# Altium integrated library atmel.IntLib: 152 symbols (part 2 of 3)
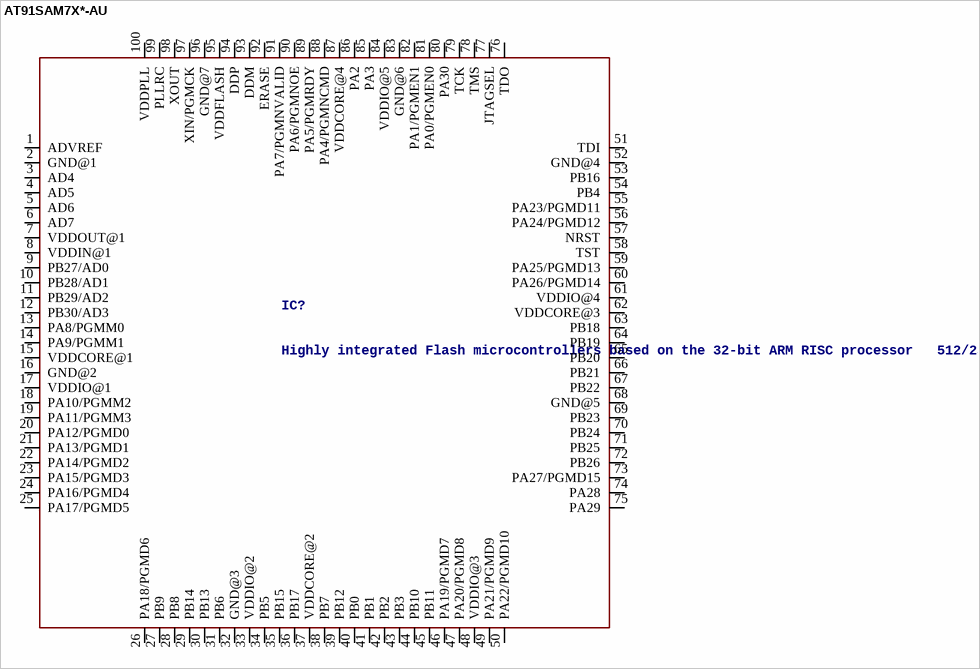
[diagram p32: symbol AT91SAM7X*-AU]

## AT91SAM7X*-AU
designator IC?, comment Highly integrated Flash microcontrollers based on the 32-bit ARM RISC processor   512/256/128 Kbyte high-speed Flash and 128/64/32 Kbyte SRAM, a large set of peripherals, including an 802.3 Ethernet MAC and a CAN controller Source: http://www.atmel.com/dyn/resources/prod_documents/6120s.pdf
MPN: AT91SAM7X128B-AU; MPN: AT91SAM7X256B-AU; MPN: AT91SAM7X512-AU; OC_FARNELL: 1288326; OC_NEWARK: 26R5682; OC_FARNELL: 1288327; OC_NEWARK: 26R5683; OC_FARNELL: 1288328; OC_NEWARK: 23M5090
footprint LQFP100
pins: 1 ADVREF, 2 GND@1, 3 AD4, 4 AD5, 5 AD6, 6 AD7, 7 VDDOUT@1, 8 VDDIN@1, 9 PB27/AD0, 10 PB28/AD1, 11 PB29/AD2, 12 PB30/AD3, 13 PA8/PGMM0, 14 PA9/PGMM1, 15 VDDCORE@1, 16 GND@2, 17 VDDIO@1, 18 PA10/PGMM2, 19 PA11/PGMM3, 20 PA12/PGMD0, 21 PA13/PGMD1, 22 PA14/PGMD2, 23 PA15/PGMD3, 24 PA16/PGMD4, 25 PA17/PGMD5, 26 PA18/PGMD6, 27 PB9, 28 PB8, 29 PB14, 30 PB13, 31 PB6, 32 GND@3, 33 VDDIO@2, 34 PB5, 35 PB15, 36 PB17, 37 VDDCORE@2, 38 PB7, 39 PB12, 40 PB0, 41 PB1, 42 PB2, 43 PB3, 44 PB10, 45 PB11, 46 PA19/PGMD7, 47 PA20/PGMD8, 48 VDDIO@3, 49 PA21/PGMD9, 50 PA22/PGMD10, 51 TDI, 52 GND@4, 53 PB16, 54 PB4, 55 PA23/PGMD11, 56 PA24/PGMD12, 57 NRST, 58 TST, 59 PA25/PGMD13, 60 PA26/PGMD14, 61 VDDIO@4, 62 VDDCORE@3, 63 PB18, 64 PB19, 65 PB20, 66 PB21, 67 PB22, 68 GND@5, 69 PB23, 70 PB24, 71 PB25, 72 PB26, 73 PA27/PGMD15, 74 PA28, 75 PA29, 76 TDO, 77 JTAGSEL, 78 TMS, 79 TCK, 80 PA30, 81 PA0/PGMEN0, 82 PA1/PGMEN1, 83 GND@6, 84 VDDIO@5, 85 PA3, 86 PA2, 87 VDDCORE@4, 88 PA4/PGMNCMD, 89 PA5/PGMRDY, 90 PA6/PGMNOE, 91 PA7/PGMNVALID, 92 ERASE, 93 DDM, 94 DDP, 95 VDDFLASH, 96 GND@7, 97 XIN/PGMCK, 98 XOUT, 99 PLLRC, 100 VDDPLL

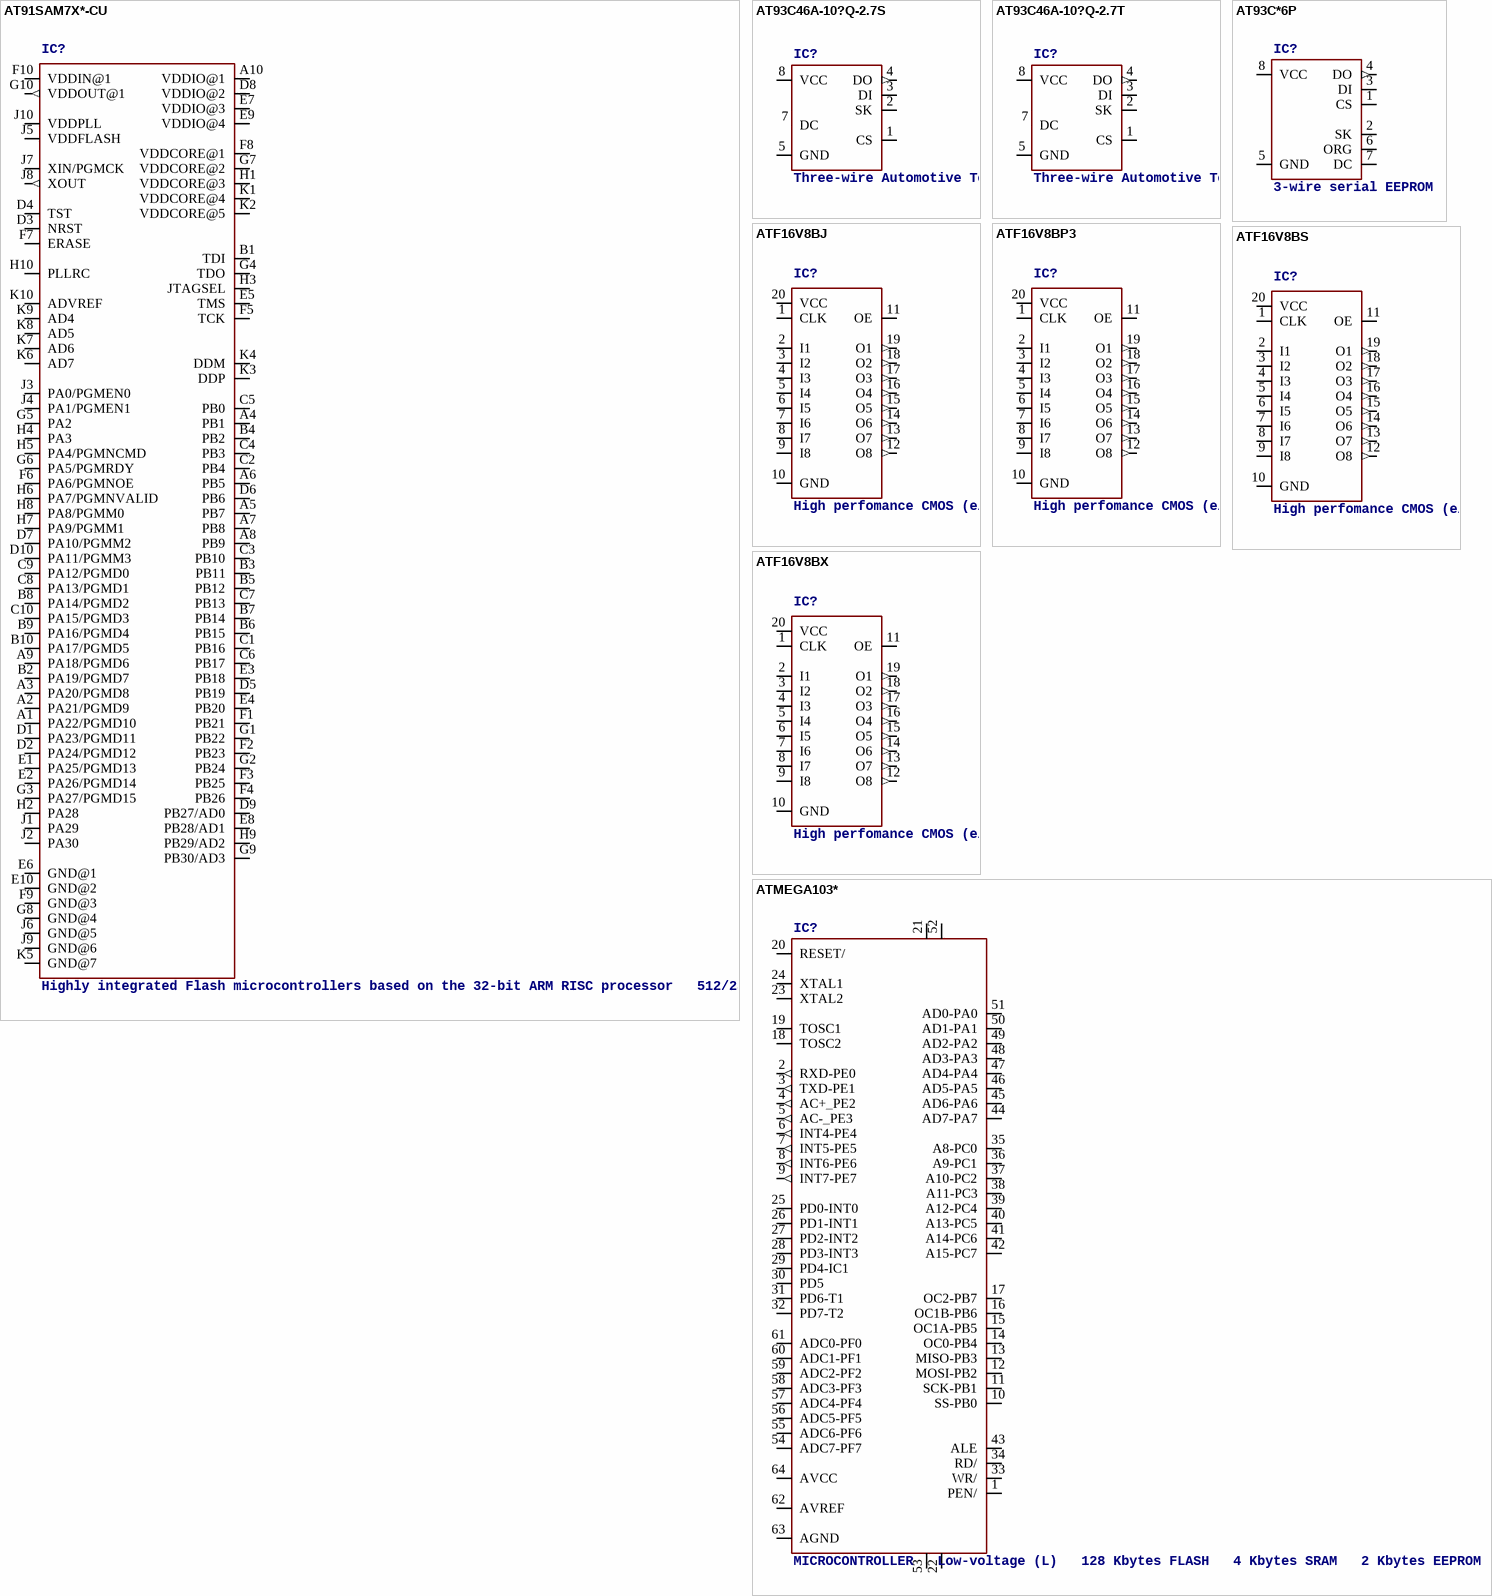
[diagram p16: symbols AT91SAM7X*-CU to ATMEGA103*]

## AT91SAM7X*-CU
designator IC?, comment Highly integrated Flash microcontrollers based on the 32-bit ARM RISC processor   512/256/128 Kbyte high-speed Flash and 128/64/32 Kbyte SRAM, a large set of peripherals, including an 802.3 Ethernet MAC and a CAN controller Source: http://www.atmel.com/dyn/resources/prod_documents/6120s.pdf
OC_FARNELL: unknown; OC_NEWARK: unknown
footprint TFBGA100
pins: A1 PA22/PGMD10, A2 PA21/PGMD9, A3 PA20/PGMD8, A4 PB1, A5 PB7, A6 PB5, A7 PB8, A8 PB9, A9 PA18/PGMD6, A10 VDDIO@1, B1 TDI, B2 PA19/PGMD7, B3 PB11, B4 PB2, B5 PB12, B6 PB15, B7 PB14, B8 PA14/PGMD2, B9 PA16/PGMD4, B10 PA17/PGMD5, C1 PB16, C2 PB4, C3 PB10, C4 PB3, C5 PB0, C6 PB17, C7 PB13, C8 PA13/PGMD1, C9 PA12/PGMD0, C10 PA15/PGMD3, D1 PA23/PGMD11, D2 PA24/PGMD12, D3 NRST, D4 TST, D5 PB19, D6 PB6, D7 PA10/PGMM2, D8 VDDIO@2, D9 PB27/AD0, D10 PA11/PGMM3, E1 PA25/PGMD13, E2 PA26/PGMD14, E3 PB18, E4 PB20, E5 TMS, E6 GND@1, E7 VDDIO@3, E8 PB28/AD1, E9 VDDIO@4, E10 GND@2, F1 PB21, F2 PB23, F3 PB25, F4 PB26, F5 TCK, F6 PA6/PGMNOE, F7 ERASE, F8 VDDCORE@1, F9 GND@3, F10 VDDIN@1, G1 PB22, G2 PB24, G3 PA27/PGMD15, G4 TDO, G5 PA2, G6 PA5/PGMRDY, G7 VDDCORE@2, G8 GND@4, G9 PB30/AD3, G10 VDDOUT@1 (out), H1 VDDCORE@3, H2 PA28, H3 JTAGSEL, H4 PA3, H5 PA4/PGMNCMD, H6 PA7/PGMNVALID, H7 PA9/PGMM1, H8 PA8/PGMM0, H9 PB29/AD2, H10 PLLRC, J1 PA29, J2 PA30, J3 PA0/PGMEN0, J4 PA1/PGMEN1, J5 VDDFLASH, J6 GND@5, J7 XIN/PGMCK, J8 XOUT (out), J9 GND@6, J10 VDDPLL, K1 VDDCORE@4, K2 VDDCORE@5, K3 DDP, K4 DDM, K5 GND@7, K6 AD7, K7 AD6, K8 AD5, K9 AD4, K10 ADVREF

## AT93C46A-10?Q-2.7S
designator IC?, comment Three-wire Automotive Temperature Serial EEPROM 1K (64 x 16)   Source: http://www.atmel.com/dyn/resources/prod_documents/doc5089.pdf
MPN: AT93C46DN-SH-B; OC_FARNELL: 1455086; OC_NEWARK: 58M3879
footprint SOIC8
pins: 1 CS, 2 SK, 3 DI, 4 DO (out), 5 GND (power), 6 NC, 7 DC, 8 VCC (power)

## AT93C46A-10?Q-2.7T
designator IC?, comment Three-wire Automotive Temperature Serial EEPROM 1K (64 x 16)   Source: http://www.atmel.com/dyn/resources/prod_documents/doc5089.pdf
OC_FARNELL: unknown; OC_NEWARK: unknown
footprint TSSOP8
pins: 1 CS, 2 SK, 3 DI, 4 DO (out), 5 GND (power), 6 NC, 7 DC, 8 VCC (power)

## AT93C*6P
designator IC?, comment 3-wire serial EEPROM
MPN: AT93C46D-PU; OC_FARNELL: 1362666; OC_NEWARK: 50M3339
footprint DIL08
pins: 1 CS, 2 SK, 3 DI, 4 DO (out), 5 GND (power), 6 ORG, 7 DC, 8 VCC (power)

## ATF16V8BJ
designator IC?, comment High perfomance CMOS (electrically erasable) programmable logic device (PLD)   ABLE-Atmel-ABEL - P18V8R, P16V8C, P16V8AS, P17V8 COPL Atmel-WinCUPL - G16V8MS, G16V8MA, G16V8AS, G16V8 LOG/IC - GAL16V8_R, GAL16V8_G7, GAL16V8_C), GAL16V8 Tango-PLD - G16V8R, G16V8C, G16V8AS, G16V8 Source: http://www.atmel.com/dyn/resources/prod_documents/DOC0364.PDF
MPN: ATF16V8CZ-15JU; OC_FARNELL: 1551767; OC_NEWARK: 94M6253
footprint PLCC20
pins: 1 CLK, 2 I1, 3 I2, 4 I3, 5 I4, 6 I5, 7 I6, 8 I7, 9 I8, 10 GND (power), 11 OE, 12 O8 (out), 13 O7 (out), 14 O6 (out), 15 O5 (out), 16 O4 (out), 17 O3 (out), 18 O2 (out), 19 O1 (out), 20 VCC (power)

## ATF16V8BP3
designator IC?, comment High perfomance CMOS (electrically erasable) programmable logic device (PLD)   ABLE-Atmel-ABEL - P18V8R, P16V8C, P16V8AS, P17V8 COPL Atmel-WinCUPL - G16V8MS, G16V8MA, G16V8AS, G16V8 LOG/IC - GAL16V8_R, GAL16V8_G7, GAL16V8_C), GAL16V8 Tango-PLD - G16V8R, G16V8C, G16V8AS, G16V8 Source: http://www.atmel.com/dyn/resources/prod_documents/DOC0364.PDF
MPN: ATF16V8CZ-15PU; OC_FARNELL: 1551768; OC_NEWARK: 94M6254
footprint DIL20
pins: 1 CLK, 2 I1, 3 I2, 4 I3, 5 I4, 6 I5, 7 I6, 8 I7, 9 I8, 10 GND (power), 11 OE, 12 O8 (out), 13 O7 (out), 14 O6 (out), 15 O5 (out), 16 O4 (out), 17 O3 (out), 18 O2 (out), 19 O1 (out), 20 VCC (power)

## ATF16V8BS
designator IC?, comment High perfomance CMOS (electrically erasable) programmable logic device (PLD)   ABLE-Atmel-ABEL - P18V8R, P16V8C, P16V8AS, P17V8 COPL Atmel-WinCUPL - G16V8MS, G16V8MA, G16V8AS, G16V8 LOG/IC - GAL16V8_R, GAL16V8_G7, GAL16V8_C), GAL16V8 Tango-PLD - G16V8R, G16V8C, G16V8AS, G16V8 Source: http://www.atmel.com/dyn/resources/prod_documents/DOC0364.PDF
OC_FARNELL: unknown; OC_NEWARK: unknown
footprint SO20L
pins: 1 CLK, 2 I1, 3 I2, 4 I3, 5 I4, 6 I5, 7 I6, 8 I7, 9 I8, 10 GND (power), 11 OE, 12 O8 (out), 13 O7 (out), 14 O6 (out), 15 O5 (out), 16 O4 (out), 17 O3 (out), 18 O2 (out), 19 O1 (out), 20 VCC (power)

## ATF16V8BX
designator IC?, comment High perfomance CMOS (electrically erasable) programmable logic device (PLD)   ABLE-Atmel-ABEL - P18V8R, P16V8C, P16V8AS, P17V8 COPL Atmel-WinCUPL - G16V8MS, G16V8MA, G16V8AS, G16V8 LOG/IC - GAL16V8_R, GAL16V8_G7, GAL16V8_C), GAL16V8 Tango-PLD - G16V8R, G16V8C, G16V8AS, G16V8 Source: http://www.atmel.com/dyn/resources/prod_documents/DOC0364.PDF
OC_FARNELL: unknown; OC_NEWARK: unknown
footprint TSSOP20
pins: 1 CLK, 2 I1, 3 I2, 4 I3, 5 I4, 6 I5, 7 I6, 8 I7, 9 I8, 10 GND (power), 11 OE, 12 O8 (out), 13 O7 (out), 14 O6 (out), 15 O5 (out), 16 O4 (out), 17 O3 (out), 18 O2 (out), 19 O1 (out), 20 VCC (power)

## ATMEGA103*
designator IC?, comment MICROCONTROLLER   Low-voltage (L)   128 Kbytes FLASH   4 Kbytes SRAM   2 Kbytes EEPROM   UART   RTC   8-channel 10 bit ADC
OC_FARNELL: unknown; OC_NEWARK: unknown
footprint TQFP64
pins: 1 PEN/, 2 RXD-PE0 (out), 3 TXD-PE1 (out), 4 AC+_PE2 (out), 5 AC-_PE3 (out), 6 INT4-PE4 (out), 7 INT5-PE5 (out), 8 INT6-PE6 (out), 9 INT7-PE7 (out), 10 SS-PB0, 11 SCK-PB1, 12 MOSI-PB2, 13 MISO-PB3, 14 OC0-PB4, 15 OC1A-PB5, 16 OC1B-PB6, 17 OC2-PB7, 18 TOSC2, 19 TOSC1, 20 RESET/, 21 01 (power), 22 02 (power), 23 XTAL2, 24 XTAL1, 25 PD0-INT0, 26 PD1-INT1, 27 PD2-INT2, 28 PD3-INT3, 29 PD4-IC1, 30 PD5, 31 PD6-T1, 32 PD7-T2, 33 WR/, 34 RD/, 35 A8-PC0, 36 A9-PC1, 37 A10-PC2, 38 A11-PC3, 39 A12-PC4, 40 A13-PC5, 41 A14-PC6, 42 A15-PC7, 43 ALE, 44 AD7-PA7, 45 AD6-PA6, 46 AD5-PA5, 47 AD4-PA4, 48 AD3-PA3, 49 AD2-PA2, 50 AD1-PA1, 51 AD0-PA0, 52 VCC (power), 53 GND (power), 54 ADC7-PF7, 55 ADC6-PF6, 56 ADC5-PF5, 57 ADC4-PF4, 58 ADC3-PF3, 59 ADC2-PF2, 60 ADC1-PF1, 61 ADC0-PF0, 62 AVREF, 63 AGND, 64 AVCC

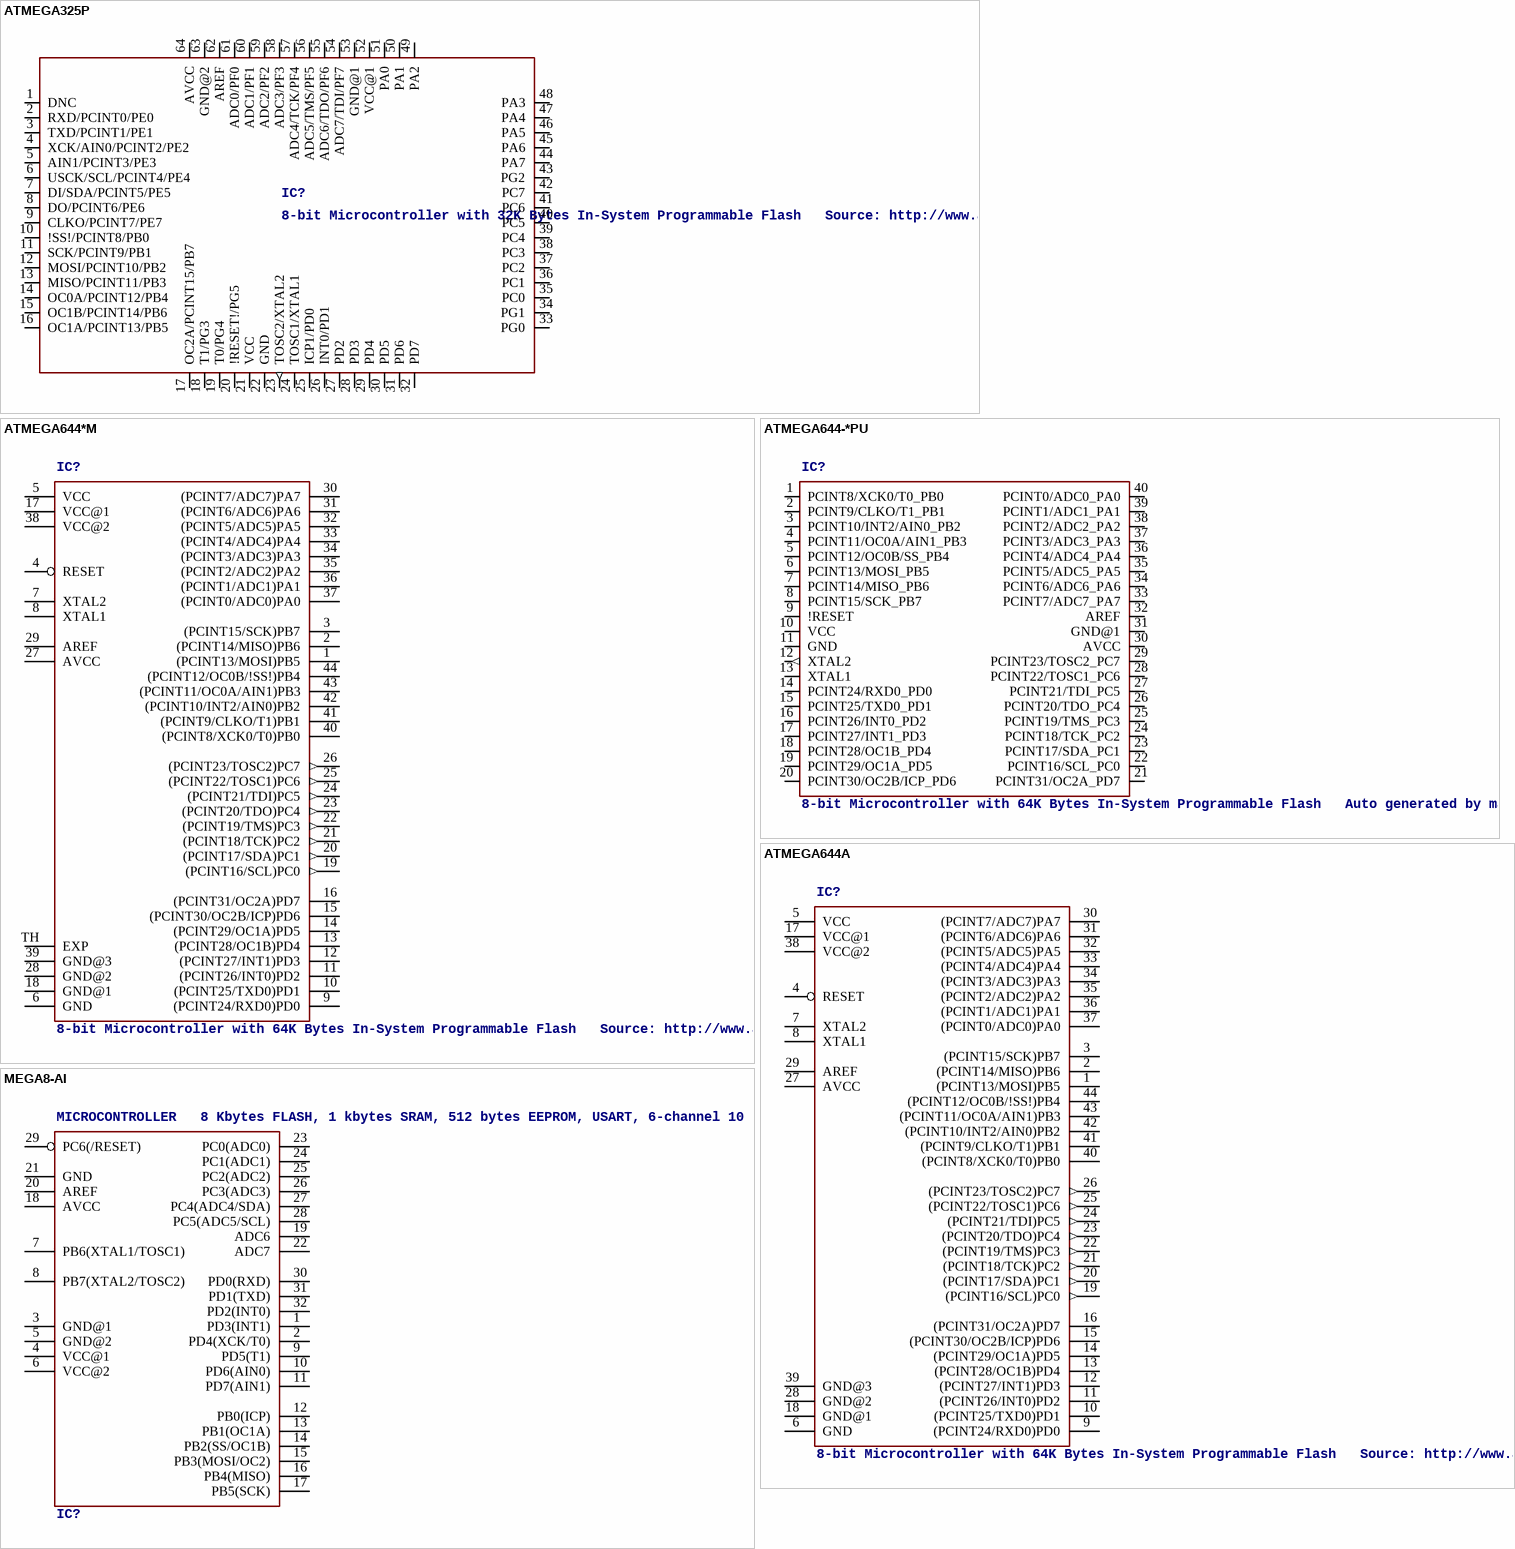
[diagram p17: symbols ATMEGA325P to MEGA8-AI]

## ATMEGA325P
designator IC?, comment 8-bit Microcontroller with 32K Bytes In-System Programmable Flash   Source: http://www.atmel.com .. doc8023.pdf
MPN: ATMEGA325PV-10AU; OC_FARNELL: 1636939; OC_NEWARK: 03P2025
footprint 64M1
pins: 1 DNC, 2 RXD/PCINT0/PE0, 3 TXD/PCINT1/PE1, 4 XCK/AIN0/PCINT2/PE2, 5 AIN1/PCINT3/PE3, 6 USCK/SCL/PCINT4/PE4, 7 DI/SDA/PCINT5/PE5, 8 DO/PCINT6/PE6, 9 CLKO/PCINT7/PE7, 10 !SS!/PCINT8/PB0, 11 SCK/PCINT9/PB1, 12 MOSI/PCINT10/PB2, 13 MISO/PCINT11/PB3, 14 OC0A/PCINT12/PB4, 15 OC1B/PCINT14/PB6, 16 OC1A/PCINT13/PB5, 17 OC2A/PCINT15/PB7, 18 T1/PG3, 19 T0/PG4, 20 !RESET!/PG5, 21 VCC (power), 22 GND (power), 23 TOSC2/XTAL2 (out), 24 TOSC1/XTAL1, 25 ICP1/PD0, 26 INT0/PD1, 27 PD2, 28 PD3, 29 PD4, 30 PD5, 31 PD6, 32 PD7, 33 PG0, 34 PG1, 35 PC0, 36 PC1, 37 PC2, 38 PC3, 39 PC4, 40 PC5, 41 PC6, 42 PC7, 43 PG2, 44 PA7, 45 PA6, 46 PA5, 47 PA4, 48 PA3, 49 PA2, 50 PA1, 51 PA0, 52 VCC@1 (power), 53 GND@1 (power), 54 ADC7/TDI/PF7, 55 ADC6/TDO/PF6, 56 ADC5/TMS/PF5, 57 ADC4/TCK/PF4, 58 ADC3/PF3, 59 ADC2/PF2, 60 ADC1/PF1, 61 ADC0/PF0, 62 AREF, 63 GND@2 (power), 64 AVCC (power)

## ATMEGA644*M
designator IC?, comment 8-bit Microcontroller with 64K Bytes In-System Programmable Flash   Source: http://www.atmel.com/dyn/resources/prod_documents/doc2593.pdf
MPN: ATMEGA644P-20MU; OC_FARNELL: 1748528; OC_NEWARK: 26R5636
footprint MLF44-TH
pins: 1 (PCINT13/MOSI)PB5, 2 (PCINT14/MISO)PB6, 3 (PCINT15/SCK)PB7, 4 RESET, 5 VCC (power), 6 GND (power), 7 XTAL2, 8 XTAL1, 9 (PCINT24/RXD0)PD0, 10 (PCINT25/TXD0)PD1, 11 (PCINT26/INT0)PD2, 12 (PCINT27/INT1)PD3, 13 (PCINT28/OC1B)PD4, 14 (PCINT29/OC1A)PD5, 15 (PCINT30/OC2B/ICP)PD6, 16 (PCINT31/OC2A)PD7, 17 VCC@1 (power), 18 GND@1 (power), 19 (PCINT16/SCL)PC0 (out), 20 (PCINT17/SDA)PC1 (out), 21 (PCINT18/TCK)PC2 (out), 22 (PCINT19/TMS)PC3 (out), 23 (PCINT20/TDO)PC4 (out), 24 (PCINT21/TDI)PC5 (out), 25 (PCINT22/TOSC1)PC6 (out), 26 (PCINT23/TOSC2)PC7 (out), 27 AVCC (power), 28 GND@2 (power), 29 AREF, 30 (PCINT7/ADC7)PA7, 31 (PCINT6/ADC6)PA6, 32 (PCINT5/ADC5)PA5, 33 (PCINT4/ADC4)PA4, 34 (PCINT3/ADC3)PA3, 35 (PCINT2/ADC2)PA2, 36 (PCINT1/ADC1)PA1, 37 (PCINT0/ADC0)PA0, 38 VCC@2 (power), 39 GND@3 (power), 40 (PCINT8/XCK0/T0)PB0, 41 (PCINT9/CLKO/T1)PB1, 42 (PCINT10/INT2/AIN0)PB2, 43 (PCINT11/OC0A/AIN1)PB3, 44 (PCINT12/OC0B/!SS!)PB4, TH EXP (power)

## ATMEGA644-*PU
designator IC?, comment 8-bit Microcontroller with 64K Bytes In-System Programmable Flash   Auto generated by make-symbol-device-package-bsdl.ulp Rev. 34 Source: http://www.atmel.com/dyn/resources/prod_documents/doc2593.pdf
MPN: ATMEGA644V-10PU; MPN: ATMEGA644-20PU; OC_FARNELL: 1288342; OC_NEWARK: 23M5062; OC_FARNELL: 1288340; OC_NEWARK: 23M5060
footprint DIL40
pins: 1 PCINT8/XCK0/T0_PB0, 2 PCINT9/CLKO/T1_PB1, 3 PCINT10/INT2/AIN0_PB2, 4 PCINT11/OC0A/AIN1_PB3, 5 PCINT12/OC0B/SS_PB4, 6 PCINT13/MOSI_PB5, 7 PCINT14/MISO_PB6, 8 PCINT15/SCK_PB7, 9 !RESET, 10 VCC (power), 11 GND (power), 12 XTAL2 (out), 13 XTAL1, 14 PCINT24/RXD0_PD0, 15 PCINT25/TXD0_PD1, 16 PCINT26/INT0_PD2, 17 PCINT27/INT1_PD3, 18 PCINT28/OC1B_PD4, 19 PCINT29/OC1A_PD5, 20 PCINT30/OC2B/ICP_PD6, 21 PCINT31/OC2A_PD7, 22 PCINT16/SCL_PC0, 23 PCINT17/SDA_PC1, 24 PCINT18/TCK_PC2, 25 PCINT19/TMS_PC3, 26 PCINT20/TDO_PC4, 27 PCINT21/TDI_PC5, 28 PCINT22/TOSC1_PC6, 29 PCINT23/TOSC2_PC7, 30 AVCC (power), 31 GND@1 (power), 32 AREF, 33 PCINT7/ADC7_PA7, 34 PCINT6/ADC6_PA6, 35 PCINT5/ADC5_PA5, 36 PCINT4/ADC4_PA4, 37 PCINT3/ADC3_PA3, 38 PCINT2/ADC2_PA2, 39 PCINT1/ADC1_PA1, 40 PCINT0/ADC0_PA0

## ATMEGA644A
designator IC?, comment 8-bit Microcontroller with 64K Bytes In-System Programmable Flash   Source: http://www.atmel.com/dyn/resources/prod_documents/doc2593.pdf
MPN: ATMEGA644PV-10AU; OC_FARNELL: 1455123; OC_NEWARK: 58M3748
footprint TQFP44
pins: 1 (PCINT13/MOSI)PB5, 2 (PCINT14/MISO)PB6, 3 (PCINT15/SCK)PB7, 4 RESET, 5 VCC (power), 6 GND (power), 7 XTAL2, 8 XTAL1, 9 (PCINT24/RXD0)PD0, 10 (PCINT25/TXD0)PD1, 11 (PCINT26/INT0)PD2, 12 (PCINT27/INT1)PD3, 13 (PCINT28/OC1B)PD4, 14 (PCINT29/OC1A)PD5, 15 (PCINT30/OC2B/ICP)PD6, 16 (PCINT31/OC2A)PD7, 17 VCC@1 (power), 18 GND@1 (power), 19 (PCINT16/SCL)PC0 (out), 20 (PCINT17/SDA)PC1 (out), 21 (PCINT18/TCK)PC2 (out), 22 (PCINT19/TMS)PC3 (out), 23 (PCINT20/TDO)PC4 (out), 24 (PCINT21/TDI)PC5 (out), 25 (PCINT22/TOSC1)PC6 (out), 26 (PCINT23/TOSC2)PC7 (out), 27 AVCC (power), 28 GND@2 (power), 29 AREF, 30 (PCINT7/ADC7)PA7, 31 (PCINT6/ADC6)PA6, 32 (PCINT5/ADC5)PA5, 33 (PCINT4/ADC4)PA4, 34 (PCINT3/ADC3)PA3, 35 (PCINT2/ADC2)PA2, 36 (PCINT1/ADC1)PA1, 37 (PCINT0/ADC0)PA0, 38 VCC@2 (power), 39 GND@3 (power), 40 (PCINT8/XCK0/T0)PB0, 41 (PCINT9/CLKO/T1)PB1, 42 (PCINT10/INT2/AIN0)PB2, 43 (PCINT11/OC0A/AIN1)PB3, 44 (PCINT12/OC0B/!SS!)PB4

## MEGA8-AI
designator IC?, comment MICROCONTROLLER   8 Kbytes FLASH, 1 kbytes SRAM, 512 bytes EEPROM, USART, 6-channel 10 bit ADC, 2-channel 8 bit ADC Pin compatible with Atmega48, ATMega88, ATMega168 Source: avr.lbr
MPN: ATMEGA8-16AU; OC_FARNELL: 9171371; OC_NEWARK: 73M8863
footprint TQFP32-08
pins: 1 PD3(INT1), 2 PD4(XCK/T0), 3 GND@1 (power), 4 VCC@1 (power), 5 GND@2 (power), 6 VCC@2 (power), 7 PB6(XTAL1/TOSC1), 8 PB7(XTAL2/TOSC2), 9 PD5(T1), 10 PD6(AIN0), 11 PD7(AIN1), 12 PB0(ICP), 13 PB1(OC1A), 14 PB2(SS/OC1B), 15 PB3(MOSI/OC2), 16 PB4(MISO), 17 PB5(SCK), 18 AVCC (power), 19 ADC6, 20 AREF, 21 GND (power), 22 ADC7, 23 PC0(ADC0), 24 PC1(ADC1), 25 PC2(ADC2), 26 PC3(ADC3), 27 PC4(ADC4/SDA), 28 PC5(ADC5/SCL), 29 PC6(/RESET), 30 PD0(RXD), 31 PD1(TXD), 32 PD2(INT0)

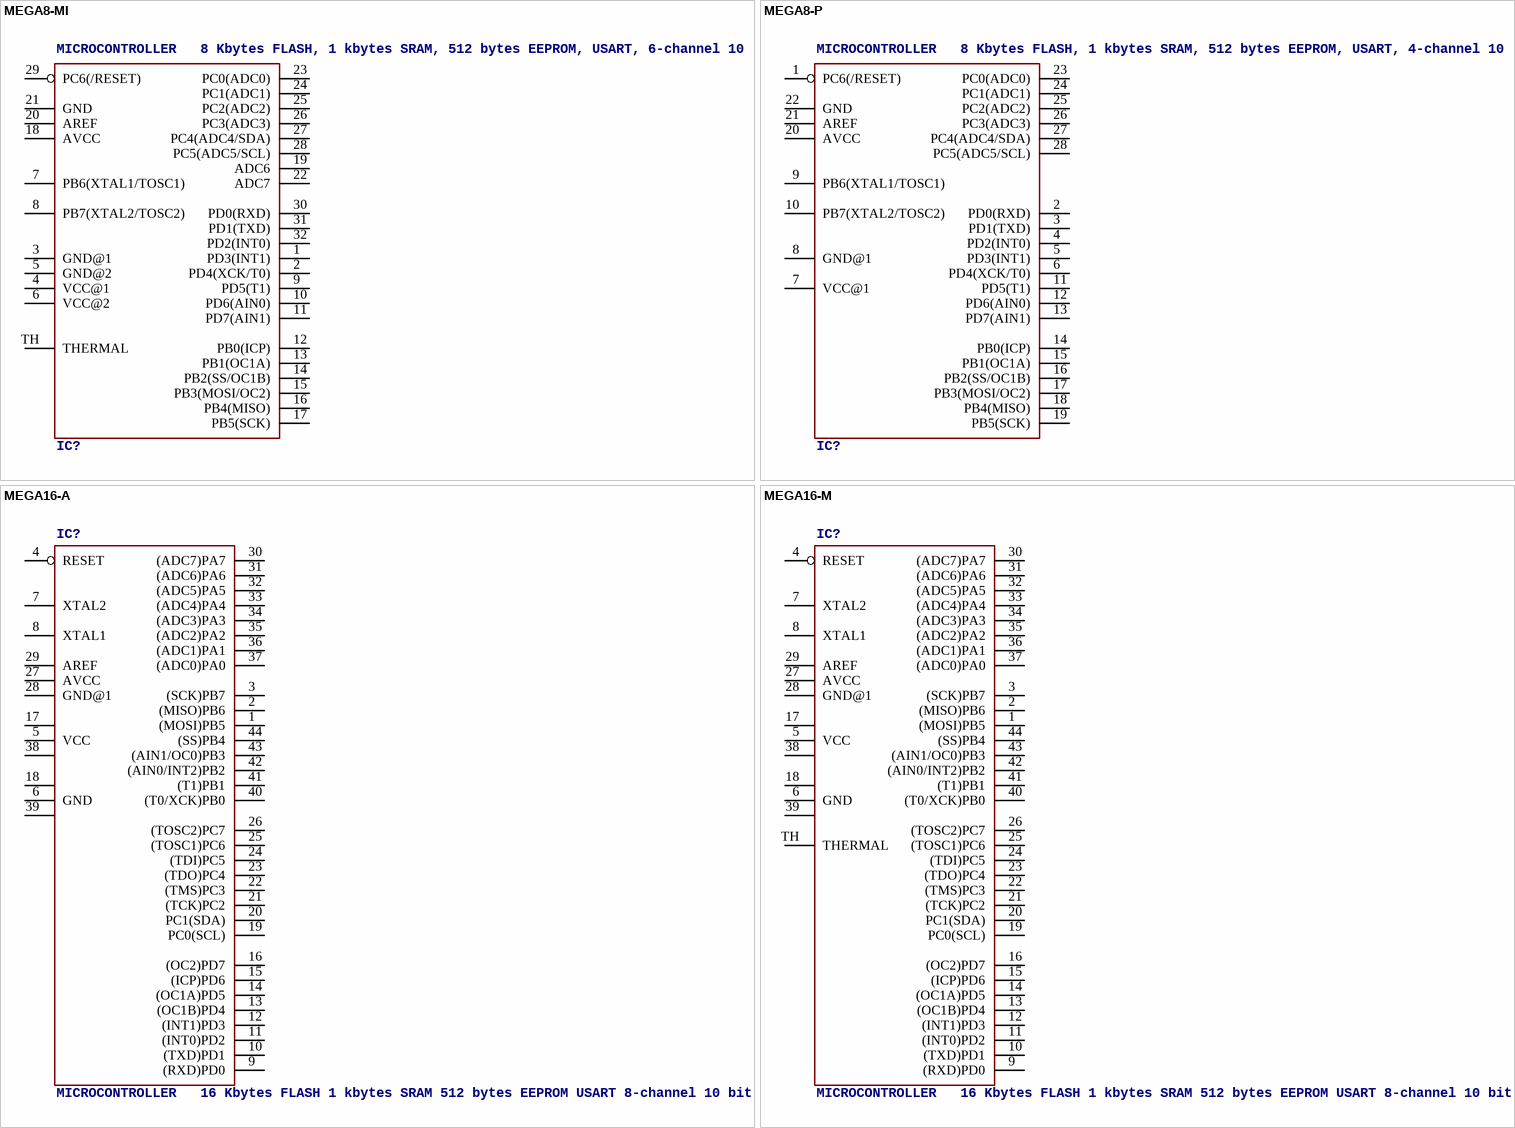
[diagram p18: symbols MEGA8-MI to MEGA16-M]

## MEGA8-MI
designator IC?, comment MICROCONTROLLER   8 Kbytes FLASH, 1 kbytes SRAM, 512 bytes EEPROM, USART, 6-channel 10 bit ADC, 2-channel 8 bit ADC Pin compatible with Atmega48, ATMega88, ATMega168 Source: avr.lbr
MPN: ATMEGA88PA-MU; OC_FARNELL: 1715491; OC_NEWARK: 15R0272
footprint MLF32-TH
pins: 1 PD3(INT1), 2 PD4(XCK/T0), 3 GND@1 (power), 4 VCC@1 (power), 5 GND@2 (power), 6 VCC@2 (power), 7 PB6(XTAL1/TOSC1), 8 PB7(XTAL2/TOSC2), 9 PD5(T1), 10 PD6(AIN0), 11 PD7(AIN1), 12 PB0(ICP), 13 PB1(OC1A), 14 PB2(SS/OC1B), 15 PB3(MOSI/OC2), 16 PB4(MISO), 17 PB5(SCK), 18 AVCC (power), 19 ADC6, 20 AREF, 21 GND (power), 22 ADC7, 23 PC0(ADC0), 24 PC1(ADC1), 25 PC2(ADC2), 26 PC3(ADC3), 27 PC4(ADC4/SDA), 28 PC5(ADC5/SCL), 29 PC6(/RESET), 30 PD0(RXD), 31 PD1(TXD), 32 PD2(INT0), TH THERMAL

## MEGA8-P
designator IC?, comment MICROCONTROLLER   8 Kbytes FLASH, 1 kbytes SRAM, 512 bytes EEPROM, USART, 4-channel 10 bit ADC, 2-channel 8 bit ADC Pin compatible with Atmega48, ATMega88, ATMega168 Source: avr.lbr
OC_FARNELL: unknown; OC_NEWARK: unknown
footprint DIL28-3
pins: 1 PC6(/RESET), 2 PD0(RXD), 3 PD1(TXD), 4 PD2(INT0), 5 PD3(INT1), 6 PD4(XCK/T0), 7 VCC@1 (power), 8 GND@1 (power), 9 PB6(XTAL1/TOSC1), 10 PB7(XTAL2/TOSC2), 11 PD5(T1), 12 PD6(AIN0), 13 PD7(AIN1), 14 PB0(ICP), 15 PB1(OC1A), 16 PB2(SS/OC1B), 17 PB3(MOSI/OC2), 18 PB4(MISO), 19 PB5(SCK), 20 AVCC (power), 21 AREF, 22 GND (power), 23 PC0(ADC0), 24 PC1(ADC1), 25 PC2(ADC2), 26 PC3(ADC3), 27 PC4(ADC4/SDA), 28 PC5(ADC5/SCL)

## MEGA16-A
designator IC?, comment MICROCONTROLLER   16 Kbytes FLASH 1 kbytes SRAM 512 bytes EEPROM USART 8-channel 10 bit ADC   Source: avr.lbr
MPN: ATMEGA16-16AU; OC_FARNELL: 9171134; OC_NEWARK: 96K6515
footprint TQFP44
pins: 1 (MOSI)PB5, 2 (MISO)PB6, 3 (SCK)PB7, 4 RESET, 5 VCC (power), 6 GND (power), 7 XTAL2, 8 XTAL1, 9 (RXD)PD0, 10 (TXD)PD1, 11 (INT0)PD2, 12 (INT1)PD3, 13 (OC1B)PD4, 14 (OC1A)PD5, 15 (ICP)PD6, 16 (OC2)PD7, 17 VCC1 (power), 18 GND1 (power), 19 PC0(SCL), 20 PC1(SDA), 21 (TCK)PC2, 22 (TMS)PC3, 23 (TDO)PC4, 24 (TDI)PC5, 25 (TOSC1)PC6, 26 (TOSC2)PC7, 27 AVCC (power), 28 GND@1 (power), 29 AREF, 30 (ADC7)PA7, 31 (ADC6)PA6, 32 (ADC5)PA5, 33 (ADC4)PA4, 34 (ADC3)PA3, 35 (ADC2)PA2, 36 (ADC1)PA1, 37 (ADC0)PA0, 38 VCC2 (power), 39 GND2 (power), 40 (T0/XCK)PB0, 41 (T1)PB1, 42 (AIN0/INT2)PB2, 43 (AIN1/OC0)PB3, 44 (SS)PB4

## MEGA16-M
designator IC?, comment MICROCONTROLLER   16 Kbytes FLASH 1 kbytes SRAM 512 bytes EEPROM USART 8-channel 10 bit ADC   Source: avr.lbr
MPN: ATMEGA16-16MU; OC_FARNELL: 1455097; OC_NEWARK: 58M3723
footprint MLF44-TH
pins: 1 (MOSI)PB5, 2 (MISO)PB6, 3 (SCK)PB7, 4 RESET, 5 VCC (power), 6 GND (power), 7 XTAL2, 8 XTAL1, 9 (RXD)PD0, 10 (TXD)PD1, 11 (INT0)PD2, 12 (INT1)PD3, 13 (OC1B)PD4, 14 (OC1A)PD5, 15 (ICP)PD6, 16 (OC2)PD7, 17 VCC1 (power), 18 GND1 (power), 19 PC0(SCL), 20 PC1(SDA), 21 (TCK)PC2, 22 (TMS)PC3, 23 (TDO)PC4, 24 (TDI)PC5, 25 (TOSC1)PC6, 26 (TOSC2)PC7, 27 AVCC (power), 28 GND@1 (power), 29 AREF, 30 (ADC7)PA7, 31 (ADC6)PA6, 32 (ADC5)PA5, 33 (ADC4)PA4, 34 (ADC3)PA3, 35 (ADC2)PA2, 36 (ADC1)PA1, 37 (ADC0)PA0, 38 VCC2 (power), 39 GND2 (power), 40 (T0/XCK)PB0, 41 (T1)PB1, 42 (AIN0/INT2)PB2, 43 (AIN1/OC0)PB3, 44 (SS)PB4, TH THERMAL

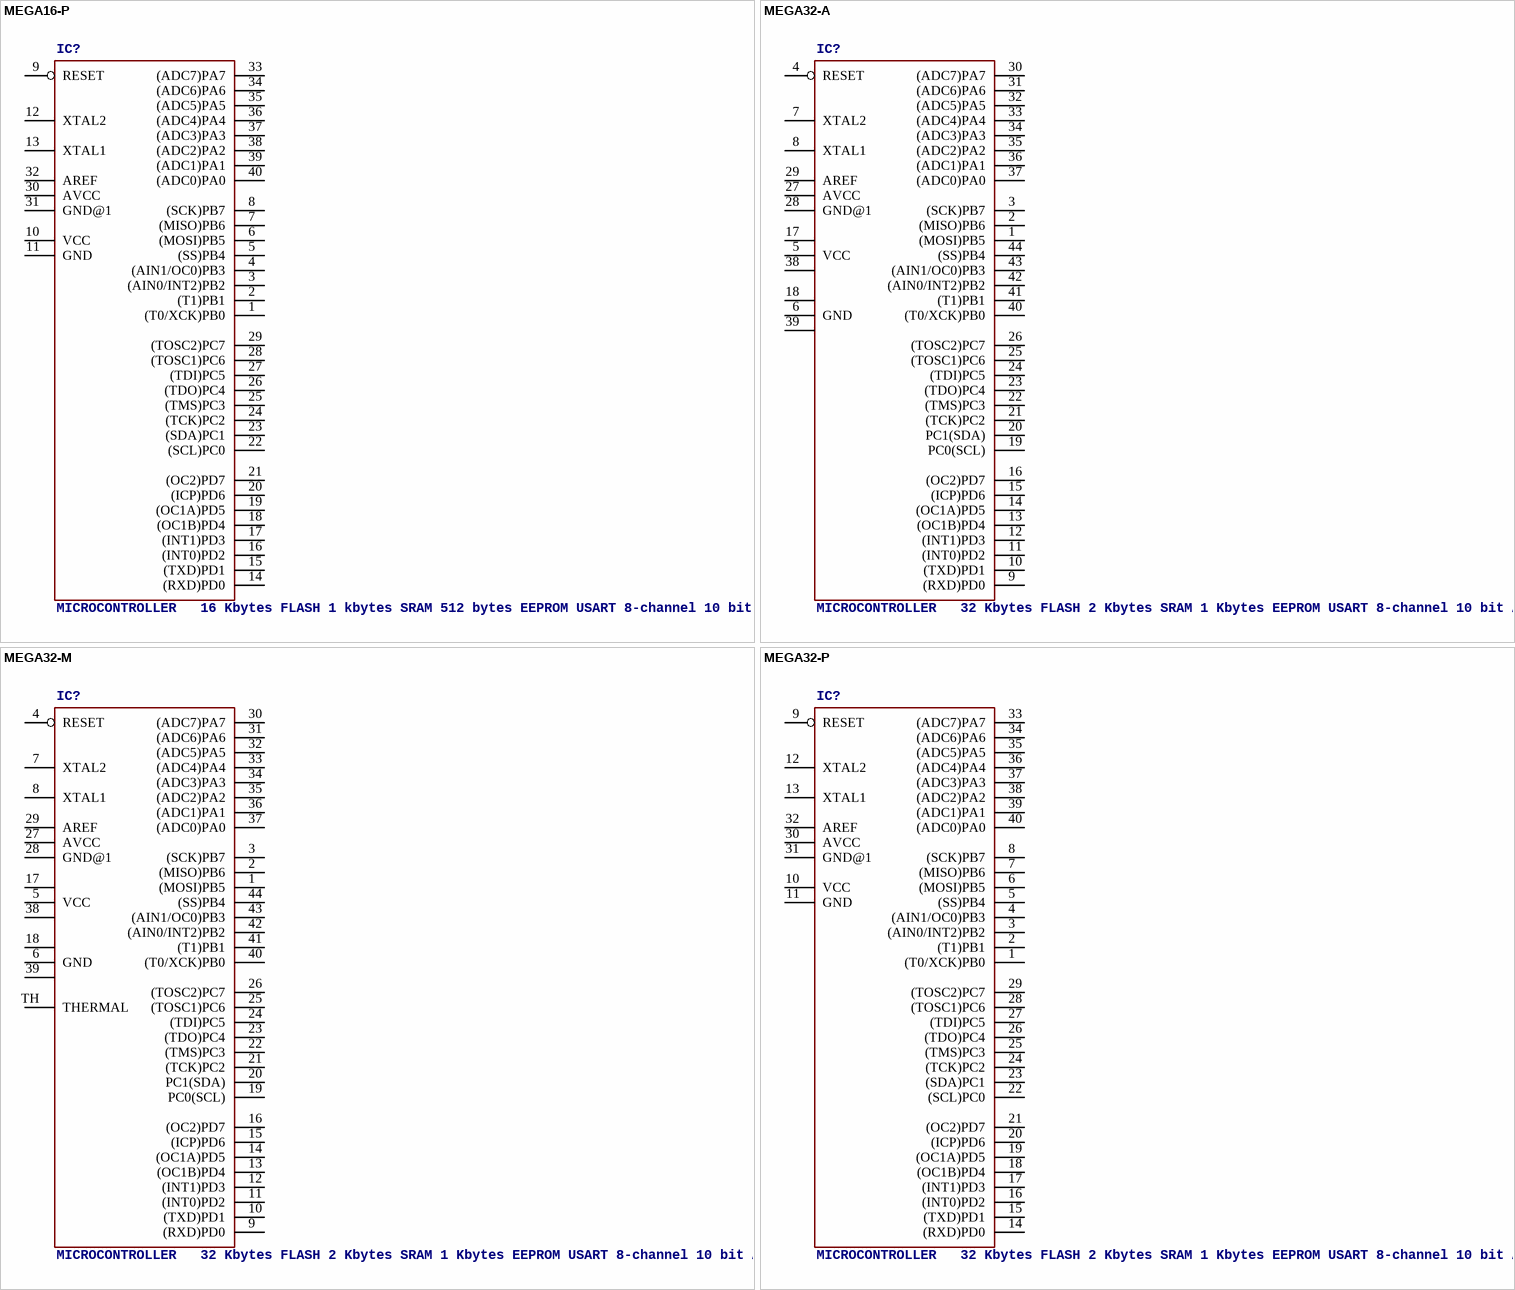
[diagram p19: symbols MEGA16-P to MEGA32-P]

## MEGA16-P
designator IC?, comment MICROCONTROLLER   16 Kbytes FLASH 1 kbytes SRAM 512 bytes EEPROM USART 8-channel 10 bit ADC   Source: avr.lbr
MPN: ATMEGA16-16PU; OC_FARNELL: 9171142; OC_NEWARK: 01M6885
footprint DIL40
pins: 1 (T0/XCK)PB0, 2 (T1)PB1, 3 (AIN0/INT2)PB2, 4 (AIN1/OC0)PB3, 5 (SS)PB4, 6 (MOSI)PB5, 7 (MISO)PB6, 8 (SCK)PB7, 9 RESET, 10 VCC (power), 11 GND (power), 12 XTAL2, 13 XTAL1, 14 (RXD)PD0, 15 (TXD)PD1, 16 (INT0)PD2, 17 (INT1)PD3, 18 (OC1B)PD4, 19 (OC1A)PD5, 20 (ICP)PD6, 21 (OC2)PD7, 22 (SCL)PC0, 23 (SDA)PC1, 24 (TCK)PC2, 25 (TMS)PC3, 26 (TDO)PC4, 27 (TDI)PC5, 28 (TOSC1)PC6, 29 (TOSC2)PC7, 30 AVCC (power), 31 GND@1 (power), 32 AREF, 33 (ADC7)PA7, 34 (ADC6)PA6, 35 (ADC5)PA5, 36 (ADC4)PA4, 37 (ADC3)PA3, 38 (ADC2)PA2, 39 (ADC1)PA1, 40 (ADC0)PA0

## MEGA32-A
designator IC?, comment MICROCONTROLLER   32 Kbytes FLASH 2 Kbytes SRAM 1 Kbytes EEPROM USART 8-channel 10 bit ADC Source: www.atmel.com .. doc2503.pdf
MPN: ATMEGA32-16AU; OC_FARNELL: 9171274; OC_NEWARK: 69K6677
footprint TQFP44
pins: 1 (MOSI)PB5, 2 (MISO)PB6, 3 (SCK)PB7, 4 RESET, 5 VCC (power), 6 GND (power), 7 XTAL2, 8 XTAL1, 9 (RXD)PD0, 10 (TXD)PD1, 11 (INT0)PD2, 12 (INT1)PD3, 13 (OC1B)PD4, 14 (OC1A)PD5, 15 (ICP)PD6, 16 (OC2)PD7, 17 VCC1 (power), 18 GND1 (power), 19 PC0(SCL), 20 PC1(SDA), 21 (TCK)PC2, 22 (TMS)PC3, 23 (TDO)PC4, 24 (TDI)PC5, 25 (TOSC1)PC6, 26 (TOSC2)PC7, 27 AVCC (power), 28 GND@1 (power), 29 AREF, 30 (ADC7)PA7, 31 (ADC6)PA6, 32 (ADC5)PA5, 33 (ADC4)PA4, 34 (ADC3)PA3, 35 (ADC2)PA2, 36 (ADC1)PA1, 37 (ADC0)PA0, 38 VCC2 (power), 39 GND2 (power), 40 (T0/XCK)PB0, 41 (T1)PB1, 42 (AIN0/INT2)PB2, 43 (AIN1/OC0)PB3, 44 (SS)PB4

## MEGA32-M
designator IC?, comment MICROCONTROLLER   32 Kbytes FLASH 2 Kbytes SRAM 1 Kbytes EEPROM USART 8-channel 10 bit ADC Source: www.atmel.com .. doc2503.pdf
MPN: ATMEGA32-16MU; OC_FARNELL: 1455108; OC_NEWARK: 58M3733
footprint MLF44-TH
pins: 1 (MOSI)PB5, 2 (MISO)PB6, 3 (SCK)PB7, 4 RESET, 5 VCC (power), 6 GND (power), 7 XTAL2, 8 XTAL1, 9 (RXD)PD0, 10 (TXD)PD1, 11 (INT0)PD2, 12 (INT1)PD3, 13 (OC1B)PD4, 14 (OC1A)PD5, 15 (ICP)PD6, 16 (OC2)PD7, 17 VCC1 (power), 18 GND1 (power), 19 PC0(SCL), 20 PC1(SDA), 21 (TCK)PC2, 22 (TMS)PC3, 23 (TDO)PC4, 24 (TDI)PC5, 25 (TOSC1)PC6, 26 (TOSC2)PC7, 27 AVCC (power), 28 GND@1 (power), 29 AREF, 30 (ADC7)PA7, 31 (ADC6)PA6, 32 (ADC5)PA5, 33 (ADC4)PA4, 34 (ADC3)PA3, 35 (ADC2)PA2, 36 (ADC1)PA1, 37 (ADC0)PA0, 38 VCC2 (power), 39 GND2 (power), 40 (T0/XCK)PB0, 41 (T1)PB1, 42 (AIN0/INT2)PB2, 43 (AIN1/OC0)PB3, 44 (SS)PB4, TH THERMAL

## MEGA32-P
designator IC?, comment MICROCONTROLLER   32 Kbytes FLASH 2 Kbytes SRAM 1 Kbytes EEPROM USART 8-channel 10 bit ADC Source: www.atmel.com .. doc2503.pdf
MPN: ATMEGA32-16PU; OC_FARNELL: 1661729; OC_NEWARK: 51P1794
footprint DIL40
pins: 1 (T0/XCK)PB0, 2 (T1)PB1, 3 (AIN0/INT2)PB2, 4 (AIN1/OC0)PB3, 5 (SS)PB4, 6 (MOSI)PB5, 7 (MISO)PB6, 8 (SCK)PB7, 9 RESET, 10 VCC (power), 11 GND (power), 12 XTAL2, 13 XTAL1, 14 (RXD)PD0, 15 (TXD)PD1, 16 (INT0)PD2, 17 (INT1)PD3, 18 (OC1B)PD4, 19 (OC1A)PD5, 20 (ICP)PD6, 21 (OC2)PD7, 22 (SCL)PC0, 23 (SDA)PC1, 24 (TCK)PC2, 25 (TMS)PC3, 26 (TDO)PC4, 27 (TDI)PC5, 28 (TOSC1)PC6, 29 (TOSC2)PC7, 30 AVCC (power), 31 GND@1 (power), 32 AREF, 33 (ADC7)PA7, 34 (ADC6)PA6, 35 (ADC5)PA5, 36 (ADC4)PA4, 37 (ADC3)PA3, 38 (ADC2)PA2, 39 (ADC1)PA1, 40 (ADC0)PA0

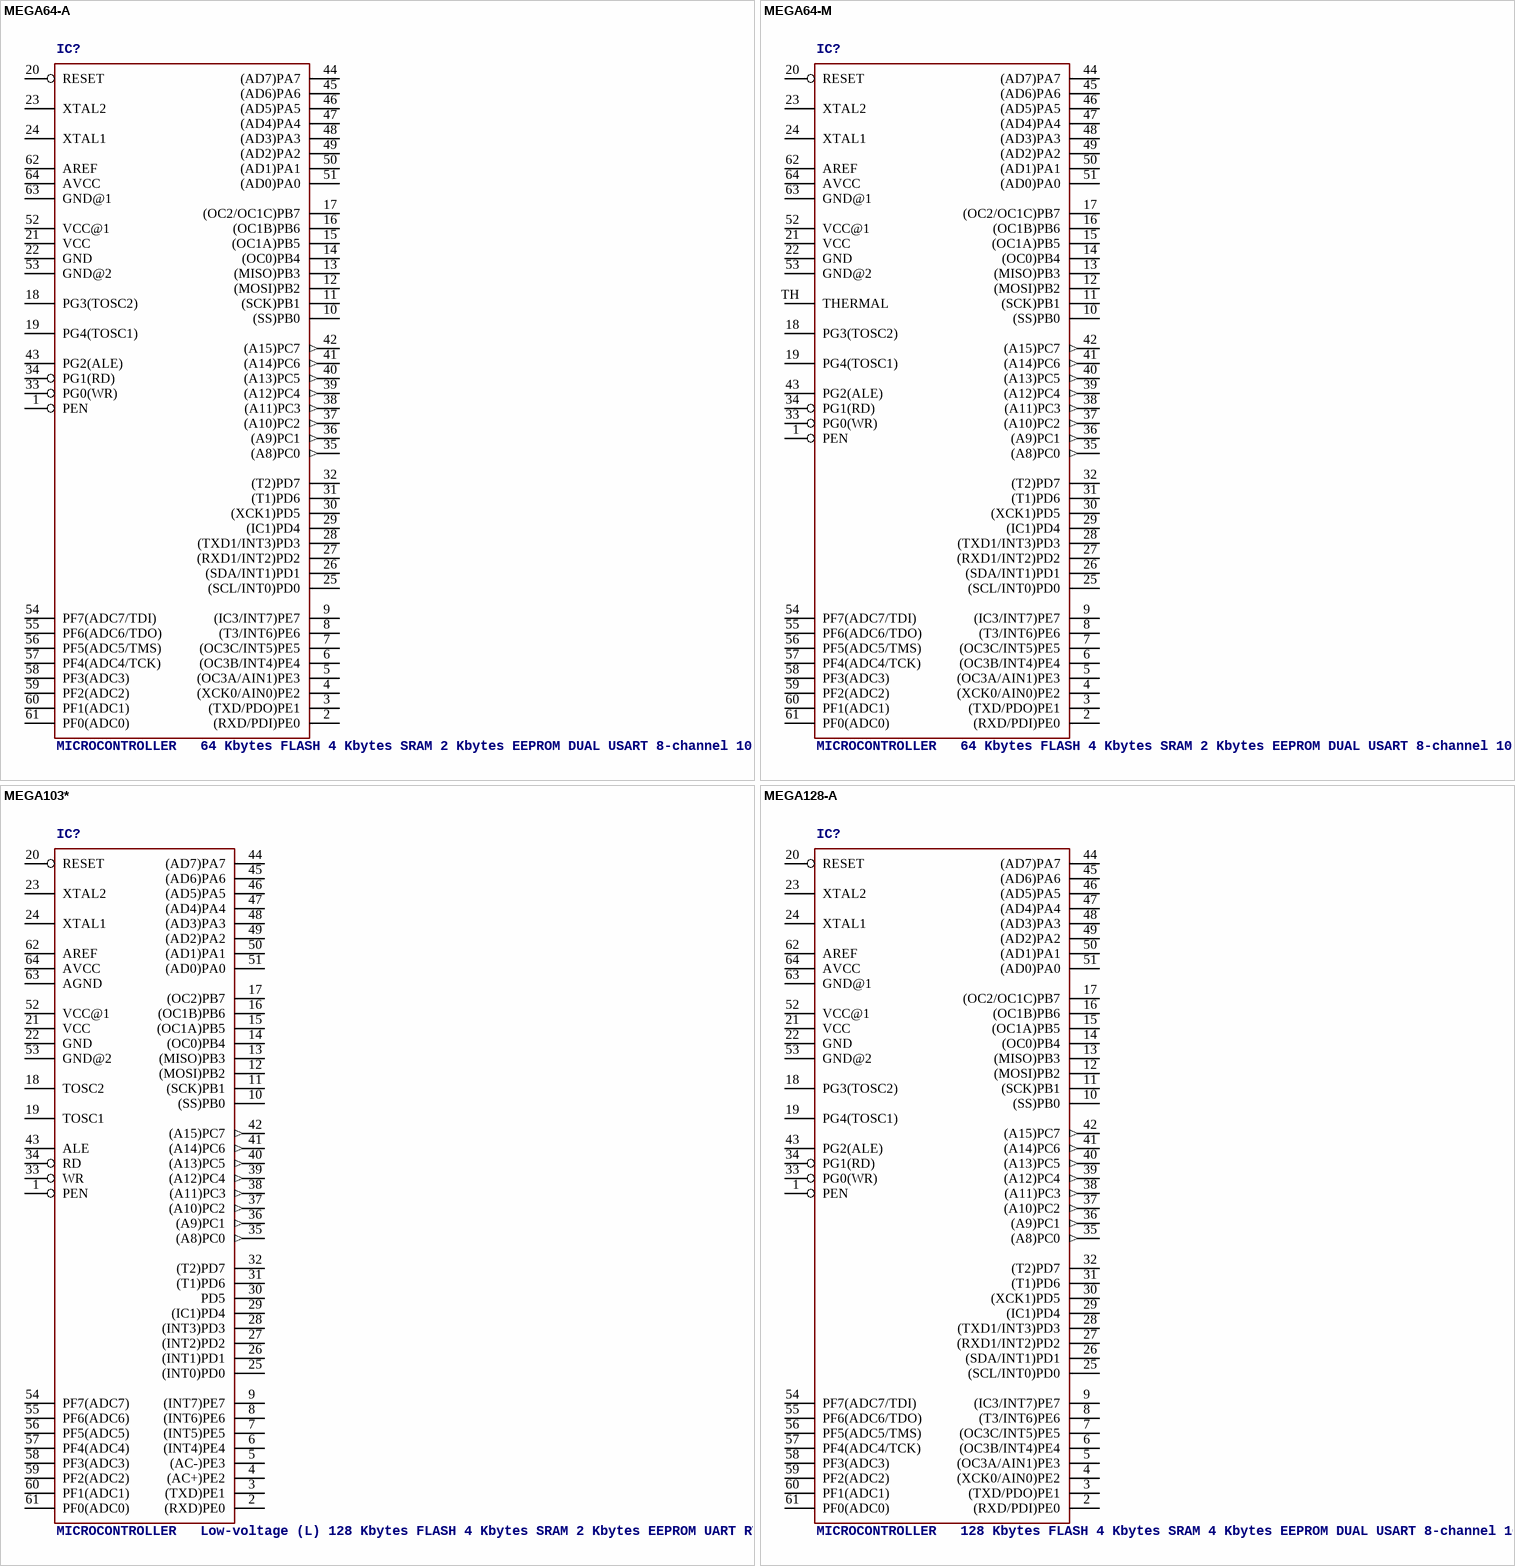
[diagram p20: symbols MEGA64-A to MEGA128-A]

## MEGA64-A
designator IC?, comment MICROCONTROLLER   64 Kbytes FLASH 4 Kbytes SRAM 2 Kbytes EEPROM DUAL USART 8-channel 10 bit ADC   Source: avr.lbr
MPN: ATMEGA64-16AU; OC_FARNELL: 9171355; OC_NEWARK: 01M6899
footprint TQFP64
pins: 1 PEN, 2 (RXD/PDI)PE0, 3 (TXD/PDO)PE1, 4 (XCK0/AIN0)PE2, 5 (OC3A/AIN1)PE3, 6 (OC3B/INT4)PE4, 7 (OC3C/INT5)PE5, 8 (T3/INT6)PE6, 9 (IC3/INT7)PE7, 10 (SS)PB0, 11 (SCK)PB1, 12 (MOSI)PB2, 13 (MISO)PB3, 14 (OC0)PB4, 15 (OC1A)PB5, 16 (OC1B)PB6, 17 (OC2/OC1C)PB7, 18 PG3(TOSC2), 19 PG4(TOSC1), 20 RESET, 21 VCC (power), 22 GND (power), 23 XTAL2, 24 XTAL1, 25 (SCL/INT0)PD0, 26 (SDA/INT1)PD1, 27 (RXD1/INT2)PD2, 28 (TXD1/INT3)PD3, 29 (IC1)PD4, 30 (XCK1)PD5, 31 (T1)PD6, 32 (T2)PD7, 33 PG0(WR), 34 PG1(RD), 35 (A8)PC0 (out), 36 (A9)PC1 (out), 37 (A10)PC2 (out), 38 (A11)PC3 (out), 39 (A12)PC4 (out), 40 (A13)PC5 (out), 41 (A14)PC6 (out), 42 (A15)PC7 (out), 43 PG2(ALE), 44 (AD7)PA7, 45 (AD6)PA6, 46 (AD5)PA5, 47 (AD4)PA4, 48 (AD3)PA3, 49 (AD2)PA2, 50 (AD1)PA1, 51 (AD0)PA0, 52 VCC@1 (power), 53 GND@2 (power), 54 PF7(ADC7/TDI), 55 PF6(ADC6/TDO), 56 PF5(ADC5/TMS), 57 PF4(ADC4/TCK), 58 PF3(ADC3), 59 PF2(ADC2), 60 PF1(ADC1), 61 PF0(ADC0), 62 AREF, 63 GND@1 (power), 64 AVCC (power)

## MEGA64-M
designator IC?, comment MICROCONTROLLER   64 Kbytes FLASH 4 Kbytes SRAM 2 Kbytes EEPROM DUAL USART 8-channel 10 bit ADC   Source: avr.lbr
MPN: ATMEGA64-16MU; OC_FARNELL: 1455120; OC_NEWARK: 58M3742
footprint MLF64-TH
pins: 1 PEN, 2 (RXD/PDI)PE0, 3 (TXD/PDO)PE1, 4 (XCK0/AIN0)PE2, 5 (OC3A/AIN1)PE3, 6 (OC3B/INT4)PE4, 7 (OC3C/INT5)PE5, 8 (T3/INT6)PE6, 9 (IC3/INT7)PE7, 10 (SS)PB0, 11 (SCK)PB1, 12 (MOSI)PB2, 13 (MISO)PB3, 14 (OC0)PB4, 15 (OC1A)PB5, 16 (OC1B)PB6, 17 (OC2/OC1C)PB7, 18 PG3(TOSC2), 19 PG4(TOSC1), 20 RESET, 21 VCC (power), 22 GND (power), 23 XTAL2, 24 XTAL1, 25 (SCL/INT0)PD0, 26 (SDA/INT1)PD1, 27 (RXD1/INT2)PD2, 28 (TXD1/INT3)PD3, 29 (IC1)PD4, 30 (XCK1)PD5, 31 (T1)PD6, 32 (T2)PD7, 33 PG0(WR), 34 PG1(RD), 35 (A8)PC0 (out), 36 (A9)PC1 (out), 37 (A10)PC2 (out), 38 (A11)PC3 (out), 39 (A12)PC4 (out), 40 (A13)PC5 (out), 41 (A14)PC6 (out), 42 (A15)PC7 (out), 43 PG2(ALE), 44 (AD7)PA7, 45 (AD6)PA6, 46 (AD5)PA5, 47 (AD4)PA4, 48 (AD3)PA3, 49 (AD2)PA2, 50 (AD1)PA1, 51 (AD0)PA0, 52 VCC@1 (power), 53 GND@2 (power), 54 PF7(ADC7/TDI), 55 PF6(ADC6/TDO), 56 PF5(ADC5/TMS), 57 PF4(ADC4/TCK), 58 PF3(ADC3), 59 PF2(ADC2), 60 PF1(ADC1), 61 PF0(ADC0), 62 AREF, 63 GND@1 (power), 64 AVCC (power), TH THERMAL

## MEGA103*
designator IC?, comment MICROCONTROLLER   Low-voltage (L) 128 Kbytes FLASH 4 Kbytes SRAM 2 Kbytes EEPROM UART RTC 8-channel 10 bit ADC   Source: avr.lbr
OC_FARNELL: unknown; OC_NEWARK: unknown
footprint TQFP64
pins: 1 PEN, 2 (RXD)PE0, 3 (TXD)PE1, 4 (AC+)PE2, 5 (AC-)PE3, 6 (INT4)PE4, 7 (INT5)PE5, 8 (INT6)PE6, 9 (INT7)PE7, 10 (SS)PB0, 11 (SCK)PB1, 12 (MOSI)PB2, 13 (MISO)PB3, 14 (OC0)PB4, 15 (OC1A)PB5, 16 (OC1B)PB6, 17 (OC2)PB7, 18 TOSC2, 19 TOSC1, 20 RESET, 21 VCC (power), 22 GND (power), 23 XTAL2, 24 XTAL1, 25 (INT0)PD0, 26 (INT1)PD1, 27 (INT2)PD2, 28 (INT3)PD3, 29 (IC1)PD4, 30 PD5, 31 (T1)PD6, 32 (T2)PD7, 33 WR, 34 RD, 35 (A8)PC0 (out), 36 (A9)PC1 (out), 37 (A10)PC2 (out), 38 (A11)PC3 (out), 39 (A12)PC4 (out), 40 (A13)PC5 (out), 41 (A14)PC6 (out), 42 (A15)PC7 (out), 43 ALE, 44 (AD7)PA7, 45 (AD6)PA6, 46 (AD5)PA5, 47 (AD4)PA4, 48 (AD3)PA3, 49 (AD2)PA2, 50 (AD1)PA1, 51 (AD0)PA0, 52 VCC@1 (power), 53 GND@2 (power), 54 PF7(ADC7), 55 PF6(ADC6), 56 PF5(ADC5), 57 PF4(ADC4), 58 PF3(ADC3), 59 PF2(ADC2), 60 PF1(ADC1), 61 PF0(ADC0), 62 AREF, 63 AGND (power), 64 AVCC (power)

## MEGA128-A
designator IC?, comment MICROCONTROLLER   128 Kbytes FLASH 4 Kbytes SRAM 4 Kbytes EEPROM DUAL USART 8-channel 10 bit ADC   Source: avr.lbr
MPN: ATMEGA128-16AU; OC_FARNELL: 9171118; OC_NEWARK: 95K7364
footprint TQFP64
pins: 1 PEN, 2 (RXD/PDI)PE0, 3 (TXD/PDO)PE1, 4 (XCK0/AIN0)PE2, 5 (OC3A/AIN1)PE3, 6 (OC3B/INT4)PE4, 7 (OC3C/INT5)PE5, 8 (T3/INT6)PE6, 9 (IC3/INT7)PE7, 10 (SS)PB0, 11 (SCK)PB1, 12 (MOSI)PB2, 13 (MISO)PB3, 14 (OC0)PB4, 15 (OC1A)PB5, 16 (OC1B)PB6, 17 (OC2/OC1C)PB7, 18 PG3(TOSC2), 19 PG4(TOSC1), 20 RESET, 21 VCC (power), 22 GND (power), 23 XTAL2, 24 XTAL1, 25 (SCL/INT0)PD0, 26 (SDA/INT1)PD1, 27 (RXD1/INT2)PD2, 28 (TXD1/INT3)PD3, 29 (IC1)PD4, 30 (XCK1)PD5, 31 (T1)PD6, 32 (T2)PD7, 33 PG0(WR), 34 PG1(RD), 35 (A8)PC0 (out), 36 (A9)PC1 (out), 37 (A10)PC2 (out), 38 (A11)PC3 (out), 39 (A12)PC4 (out), 40 (A13)PC5 (out), 41 (A14)PC6 (out), 42 (A15)PC7 (out), 43 PG2(ALE), 44 (AD7)PA7, 45 (AD6)PA6, 46 (AD5)PA5, 47 (AD4)PA4, 48 (AD3)PA3, 49 (AD2)PA2, 50 (AD1)PA1, 51 (AD0)PA0, 52 VCC@1 (power), 53 GND@2 (power), 54 PF7(ADC7/TDI), 55 PF6(ADC6/TDO), 56 PF5(ADC5/TMS), 57 PF4(ADC4/TCK), 58 PF3(ADC3), 59 PF2(ADC2), 60 PF1(ADC1), 61 PF0(ADC0), 62 AREF, 63 GND@1 (power), 64 AVCC (power)

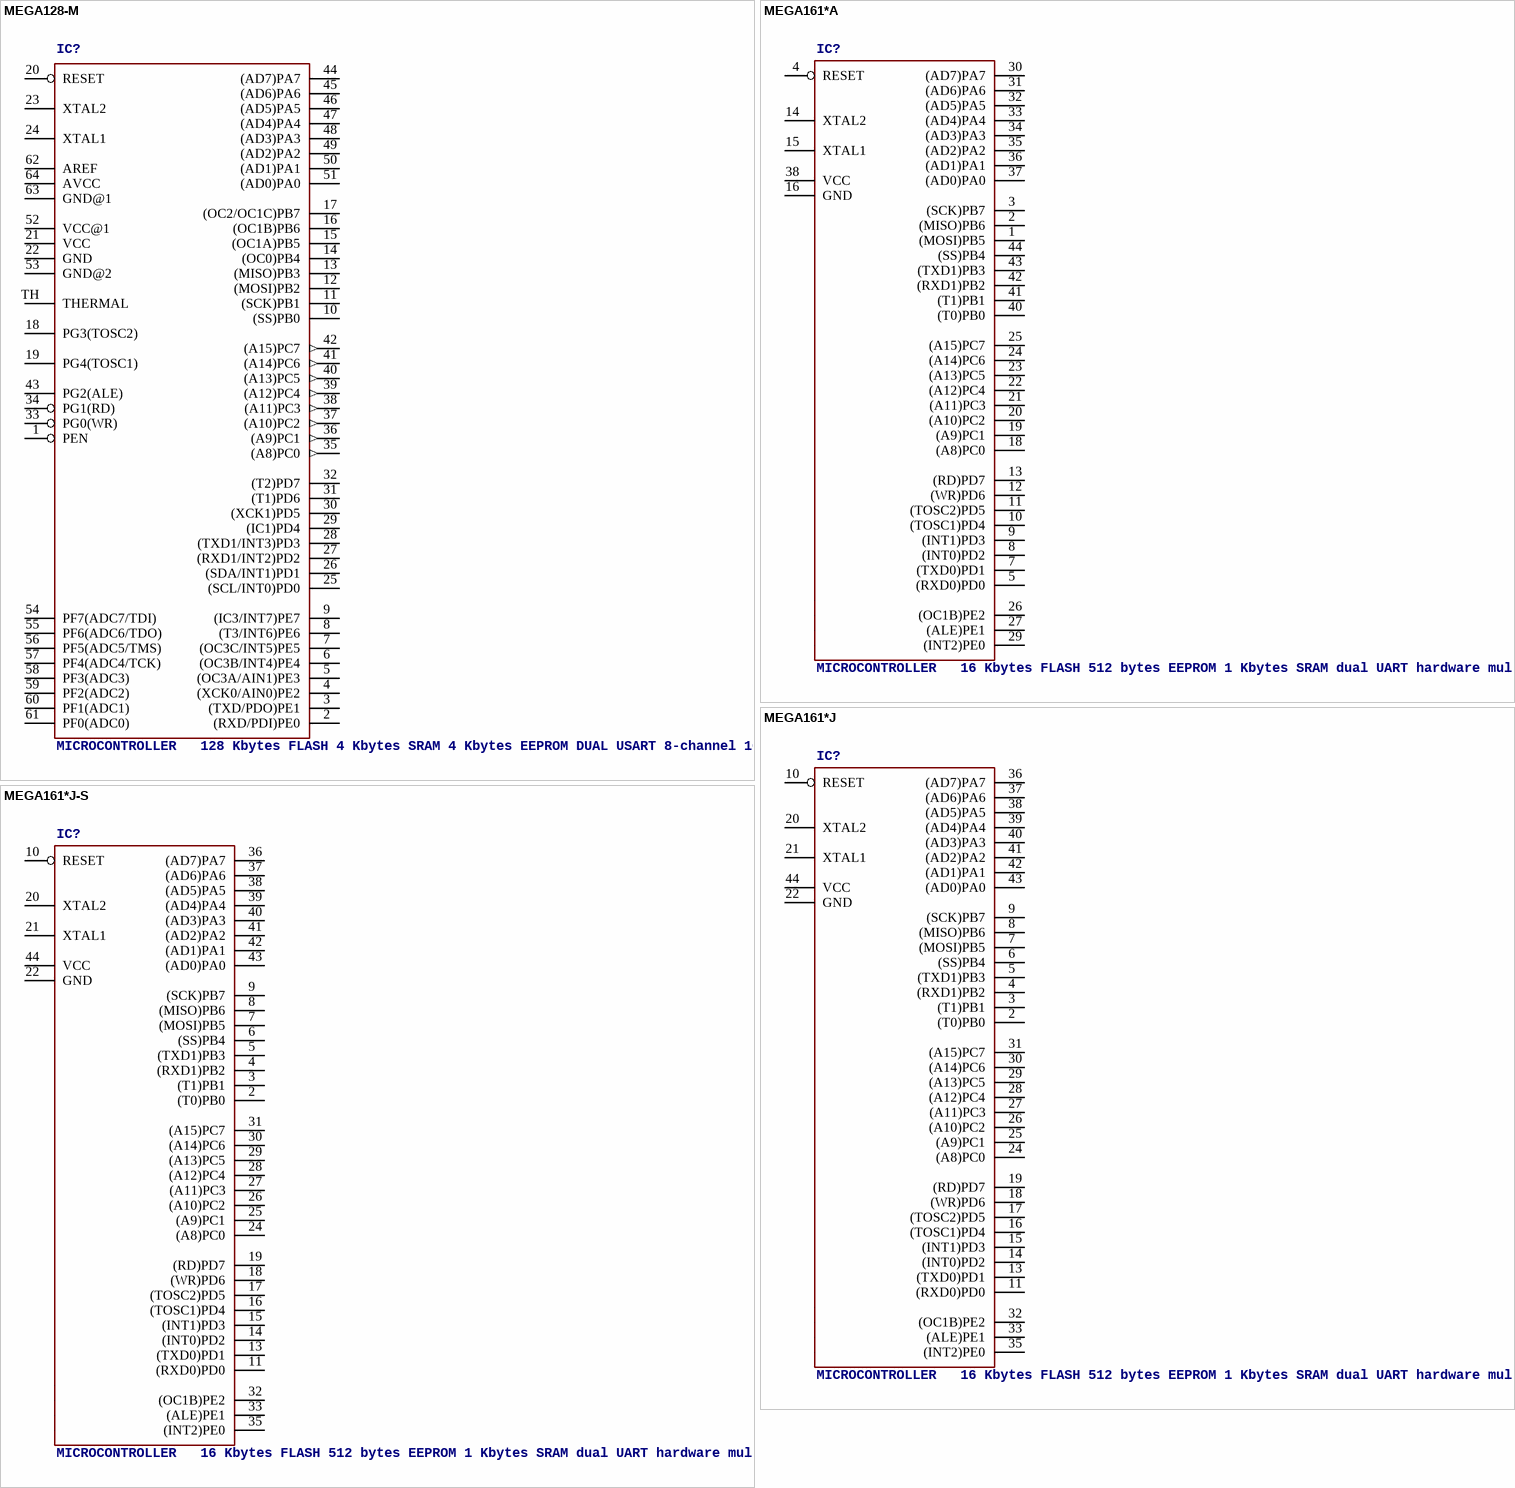
[diagram p21: symbols MEGA128-M to MEGA161*J-S]

## MEGA128-M
designator IC?, comment MICROCONTROLLER   128 Kbytes FLASH 4 Kbytes SRAM 4 Kbytes EEPROM DUAL USART 8-channel 10 bit ADC   Source: avr.lbr
MPN: ATMEGA128-16MU; OC_FARNELL: 1455093; OC_NEWARK: 58M3717
footprint MLF64-TH
pins: 1 PEN, 2 (RXD/PDI)PE0, 3 (TXD/PDO)PE1, 4 (XCK0/AIN0)PE2, 5 (OC3A/AIN1)PE3, 6 (OC3B/INT4)PE4, 7 (OC3C/INT5)PE5, 8 (T3/INT6)PE6, 9 (IC3/INT7)PE7, 10 (SS)PB0, 11 (SCK)PB1, 12 (MOSI)PB2, 13 (MISO)PB3, 14 (OC0)PB4, 15 (OC1A)PB5, 16 (OC1B)PB6, 17 (OC2/OC1C)PB7, 18 PG3(TOSC2), 19 PG4(TOSC1), 20 RESET, 21 VCC (power), 22 GND (power), 23 XTAL2, 24 XTAL1, 25 (SCL/INT0)PD0, 26 (SDA/INT1)PD1, 27 (RXD1/INT2)PD2, 28 (TXD1/INT3)PD3, 29 (IC1)PD4, 30 (XCK1)PD5, 31 (T1)PD6, 32 (T2)PD7, 33 PG0(WR), 34 PG1(RD), 35 (A8)PC0 (out), 36 (A9)PC1 (out), 37 (A10)PC2 (out), 38 (A11)PC3 (out), 39 (A12)PC4 (out), 40 (A13)PC5 (out), 41 (A14)PC6 (out), 42 (A15)PC7 (out), 43 PG2(ALE), 44 (AD7)PA7, 45 (AD6)PA6, 46 (AD5)PA5, 47 (AD4)PA4, 48 (AD3)PA3, 49 (AD2)PA2, 50 (AD1)PA1, 51 (AD0)PA0, 52 VCC@1 (power), 53 GND@2 (power), 54 PF7(ADC7/TDI), 55 PF6(ADC6/TDO), 56 PF5(ADC5/TMS), 57 PF4(ADC4/TCK), 58 PF3(ADC3), 59 PF2(ADC2), 60 PF1(ADC1), 61 PF0(ADC0), 62 AREF, 63 GND@1 (power), 64 AVCC (power), TH THERMAL

## MEGA161*A
designator IC?, comment MICROCONTROLLER   16 Kbytes FLASH 512 bytes EEPROM 1 Kbytes SRAM dual UART hardware multiplier   Source: avr.lbr
MPN: ATMEGA16-16AU; OC_FARNELL: 9171134; OC_NEWARK: 96K6515
footprint TQFP44
pins: 1 (MOSI)PB5, 2 (MISO)PB6, 3 (SCK)PB7, 4 RESET, 5 (RXD0)PD0, 6 NC1, 7 (TXD0)PD1, 8 (INT0)PD2, 9 (INT1)PD3, 10 (TOSC1)PD4, 11 (TOSC2)PD5, 12 (WR)PD6, 13 (RD)PD7, 14 XTAL2, 15 XTAL1, 16 GND (power), 17 NC2, 18 (A8)PC0, 19 (A9)PC1, 20 (A10)PC2, 21 (A11)PC3, 22 (A12)PC4, 23 (A13)PC5, 24 (A14)PC6, 25 (A15)PC7, 26 (OC1B)PE2, 27 (ALE)PE1, 28 NC3, 29 (INT2)PE0, 30 (AD7)PA7, 31 (AD6)PA6, 32 (AD5)PA5, 33 (AD4)PA4, 34 (AD3)PA3, 35 (AD2)PA2, 36 (AD1)PA1, 37 (AD0)PA0, 38 VCC (power), 39 NC4, 40 (T0)PB0, 41 (T1)PB1, 42 (RXD1)PB2, 43 (TXD1)PB3, 44 (SS)PB4

## MEGA161*J
designator IC?, comment MICROCONTROLLER   16 Kbytes FLASH 512 bytes EEPROM 1 Kbytes SRAM dual UART hardware multiplier   Source: avr.lbr
OC_FARNELL: unknown; OC_NEWARK: unknown
footprint PLCC44
pins: 1 NC1, 2 (T0)PB0, 3 (T1)PB1, 4 (RXD1)PB2, 5 (TXD1)PB3, 6 (SS)PB4, 7 (MOSI)PB5, 8 (MISO)PB6, 9 (SCK)PB7, 10 RESET, 11 (RXD0)PD0, 12 NC2, 13 (TXD0)PD1, 14 (INT0)PD2, 15 (INT1)PD3, 16 (TOSC1)PD4, 17 (TOSC2)PD5, 18 (WR)PD6, 19 (RD)PD7, 20 XTAL2, 21 XTAL1, 22 GND (power), 23 NC3, 24 (A8)PC0, 25 (A9)PC1, 26 (A10)PC2, 27 (A11)PC3, 28 (A12)PC4, 29 (A13)PC5, 30 (A14)PC6, 31 (A15)PC7, 32 (OC1B)PE2, 33 (ALE)PE1, 34 NC4, 35 (INT2)PE0, 36 (AD7)PA7, 37 (AD6)PA6, 38 (AD5)PA5, 39 (AD4)PA4, 40 (AD3)PA3, 41 (AD2)PA2, 42 (AD1)PA1, 43 (AD0)PA0, 44 VCC (power)

## MEGA161*J-S
designator IC?, comment MICROCONTROLLER   16 Kbytes FLASH 512 bytes EEPROM 1 Kbytes SRAM dual UART hardware multiplier   Source: avr.lbr
OC_FARNELL: unknown; OC_NEWARK: unknown
footprint S44
pins: 1 NC1, 2 (T0)PB0, 3 (T1)PB1, 4 (RXD1)PB2, 5 (TXD1)PB3, 6 (SS)PB4, 7 (MOSI)PB5, 8 (MISO)PB6, 9 (SCK)PB7, 10 RESET, 11 (RXD0)PD0, 12 NC2, 13 (TXD0)PD1, 14 (INT0)PD2, 15 (INT1)PD3, 16 (TOSC1)PD4, 17 (TOSC2)PD5, 18 (WR)PD6, 19 (RD)PD7, 20 XTAL2, 21 XTAL1, 22 GND (power), 23 NC3, 24 (A8)PC0, 25 (A9)PC1, 26 (A10)PC2, 27 (A11)PC3, 28 (A12)PC4, 29 (A13)PC5, 30 (A14)PC6, 31 (A15)PC7, 32 (OC1B)PE2, 33 (ALE)PE1, 34 NC4, 35 (INT2)PE0, 36 (AD7)PA7, 37 (AD6)PA6, 38 (AD5)PA5, 39 (AD4)PA4, 40 (AD3)PA3, 41 (AD2)PA2, 42 (AD1)PA1, 43 (AD0)PA0, 44 VCC (power)

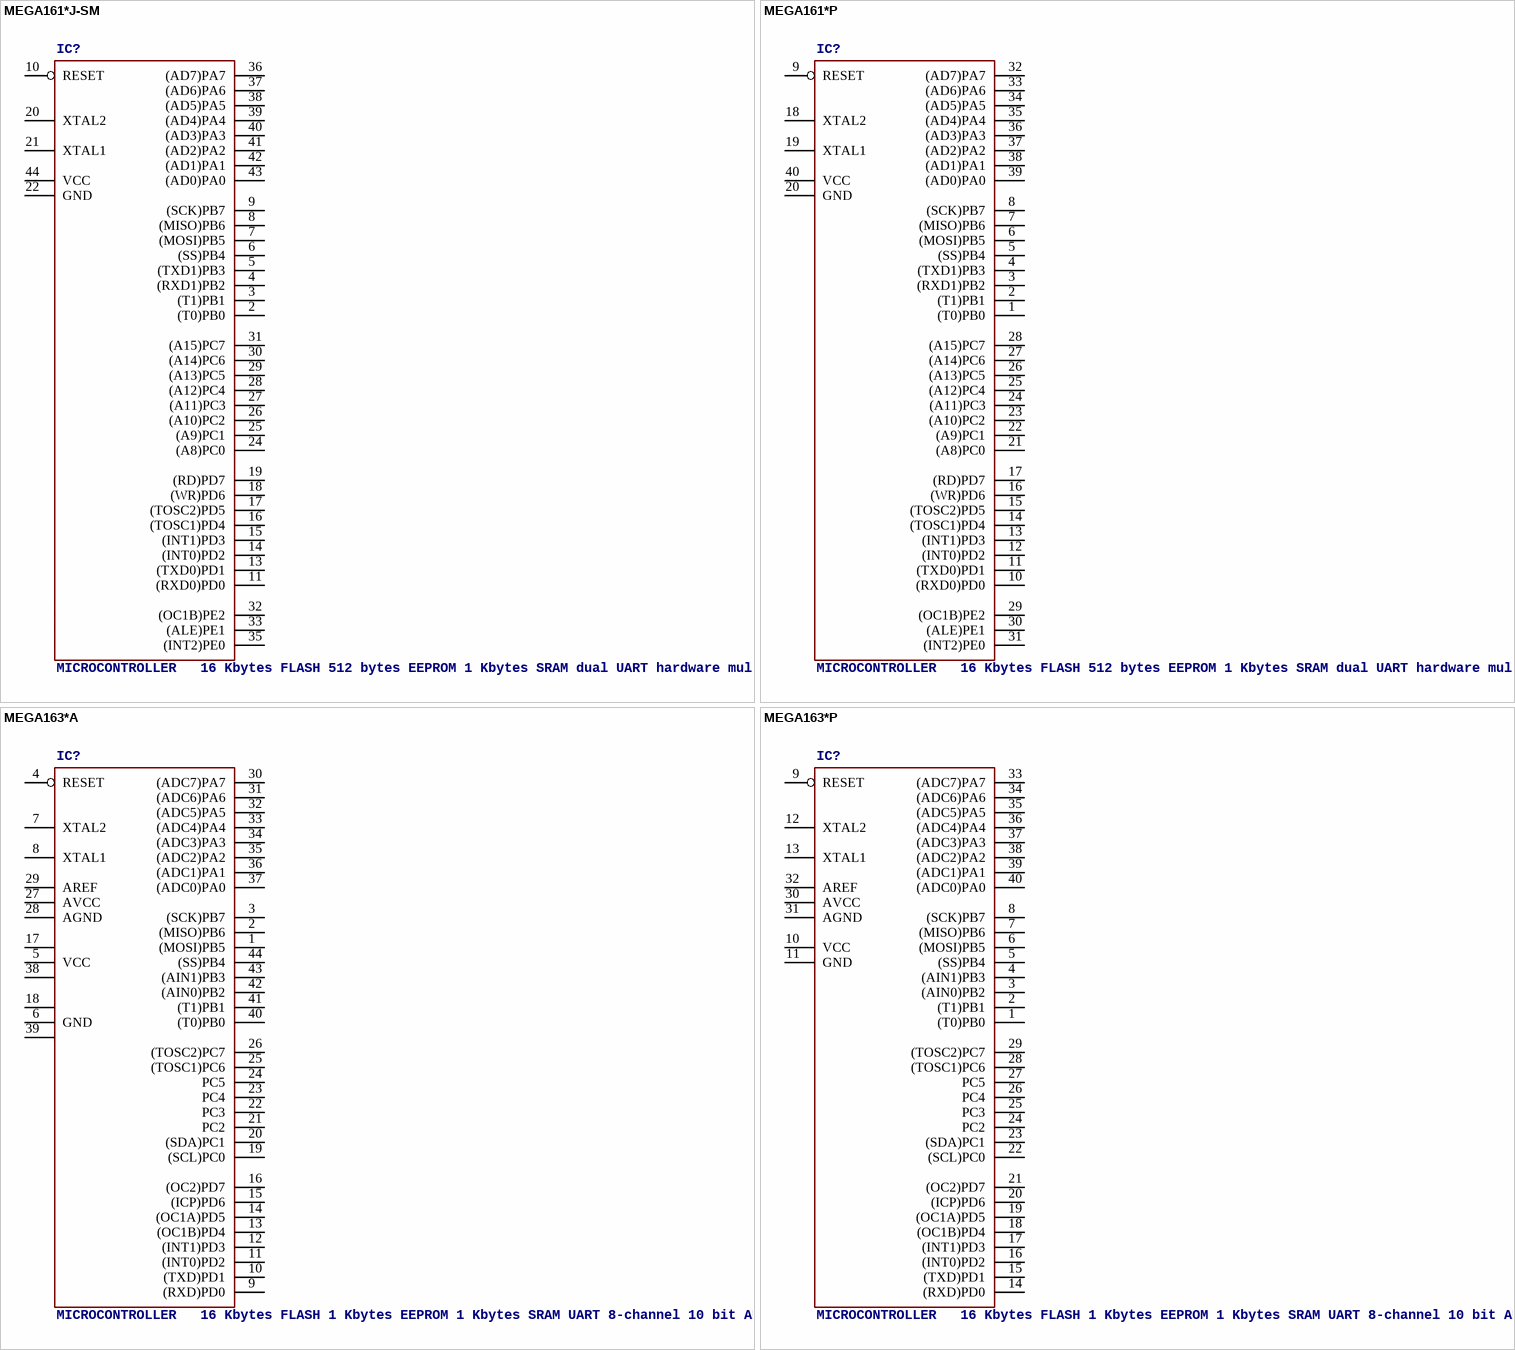
[diagram p22: symbols MEGA161*J-SM to MEGA163*P]

## MEGA161*J-SM
designator IC?, comment MICROCONTROLLER   16 Kbytes FLASH 512 bytes EEPROM 1 Kbytes SRAM dual UART hardware multiplier   Source: avr.lbr
OC_FARNELL: unknown; OC_NEWARK: unknown
footprint PLCC-SM44
pins: 1 NC1, 2 (T0)PB0, 3 (T1)PB1, 4 (RXD1)PB2, 5 (TXD1)PB3, 6 (SS)PB4, 7 (MOSI)PB5, 8 (MISO)PB6, 9 (SCK)PB7, 10 RESET, 11 (RXD0)PD0, 12 NC2, 13 (TXD0)PD1, 14 (INT0)PD2, 15 (INT1)PD3, 16 (TOSC1)PD4, 17 (TOSC2)PD5, 18 (WR)PD6, 19 (RD)PD7, 20 XTAL2, 21 XTAL1, 22 GND (power), 23 NC3, 24 (A8)PC0, 25 (A9)PC1, 26 (A10)PC2, 27 (A11)PC3, 28 (A12)PC4, 29 (A13)PC5, 30 (A14)PC6, 31 (A15)PC7, 32 (OC1B)PE2, 33 (ALE)PE1, 34 NC4, 35 (INT2)PE0, 36 (AD7)PA7, 37 (AD6)PA6, 38 (AD5)PA5, 39 (AD4)PA4, 40 (AD3)PA3, 41 (AD2)PA2, 42 (AD1)PA1, 43 (AD0)PA0, 44 VCC (power)

## MEGA161*P
designator IC?, comment MICROCONTROLLER   16 Kbytes FLASH 512 bytes EEPROM 1 Kbytes SRAM dual UART hardware multiplier   Source: avr.lbr
MPN: ATMEGA16-16PU; OC_FARNELL: 9171142; OC_NEWARK: 98M0167
footprint DIL40
pins: 1 (T0)PB0, 2 (T1)PB1, 3 (RXD1)PB2, 4 (TXD1)PB3, 5 (SS)PB4, 6 (MOSI)PB5, 7 (MISO)PB6, 8 (SCK)PB7, 9 RESET, 10 (RXD0)PD0, 11 (TXD0)PD1, 12 (INT0)PD2, 13 (INT1)PD3, 14 (TOSC1)PD4, 15 (TOSC2)PD5, 16 (WR)PD6, 17 (RD)PD7, 18 XTAL2, 19 XTAL1, 20 GND (power), 21 (A8)PC0, 22 (A9)PC1, 23 (A10)PC2, 24 (A11)PC3, 25 (A12)PC4, 26 (A13)PC5, 27 (A14)PC6, 28 (A15)PC7, 29 (OC1B)PE2, 30 (ALE)PE1, 31 (INT2)PE0, 32 (AD7)PA7, 33 (AD6)PA6, 34 (AD5)PA5, 35 (AD4)PA4, 36 (AD3)PA3, 37 (AD2)PA2, 38 (AD1)PA1, 39 (AD0)PA0, 40 VCC (power)

## MEGA163*A
designator IC?, comment MICROCONTROLLER   16 Kbytes FLASH 1 Kbytes EEPROM 1 Kbytes SRAM UART 8-channel 10 bit ADC hardware multiplier   Source: avr.lbr
OC_FARNELL: unknown; OC_NEWARK: unknown
footprint TQFP44
pins: 1 (MOSI)PB5, 2 (MISO)PB6, 3 (SCK)PB7, 4 RESET, 5 VCC (power), 6 GND (power), 7 XTAL2, 8 XTAL1, 9 (RXD)PD0, 10 (TXD)PD1, 11 (INT0)PD2, 12 (INT1)PD3, 13 (OC1B)PD4, 14 (OC1A)PD5, 15 (ICP)PD6, 16 (OC2)PD7, 17 VCC1 (power), 18 GND1 (power), 19 (SCL)PC0, 20 (SDA)PC1, 21 PC2, 22 PC3, 23 PC4, 24 PC5, 25 (TOSC1)PC6, 26 (TOSC2)PC7, 27 AVCC (power), 28 AGND (power), 29 AREF, 30 (ADC7)PA7, 31 (ADC6)PA6, 32 (ADC5)PA5, 33 (ADC4)PA4, 34 (ADC3)PA3, 35 (ADC2)PA2, 36 (ADC1)PA1, 37 (ADC0)PA0, 38 VCC2 (power), 39 GND2 (power), 40 (T0)PB0, 41 (T1)PB1, 42 (AIN0)PB2, 43 (AIN1)PB3, 44 (SS)PB4

## MEGA163*P
designator IC?, comment MICROCONTROLLER   16 Kbytes FLASH 1 Kbytes EEPROM 1 Kbytes SRAM UART 8-channel 10 bit ADC hardware multiplier   Source: avr.lbr
OC_FARNELL: unknown; OC_NEWARK: unknown
footprint DIL40
pins: 1 (T0)PB0, 2 (T1)PB1, 3 (AIN0)PB2, 4 (AIN1)PB3, 5 (SS)PB4, 6 (MOSI)PB5, 7 (MISO)PB6, 8 (SCK)PB7, 9 RESET, 10 VCC (power), 11 GND (power), 12 XTAL2, 13 XTAL1, 14 (RXD)PD0, 15 (TXD)PD1, 16 (INT0)PD2, 17 (INT1)PD3, 18 (OC1B)PD4, 19 (OC1A)PD5, 20 (ICP)PD6, 21 (OC2)PD7, 22 (SCL)PC0, 23 (SDA)PC1, 24 PC2, 25 PC3, 26 PC4, 27 PC5, 28 (TOSC1)PC6, 29 (TOSC2)PC7, 30 AVCC (power), 31 AGND (power), 32 AREF, 33 (ADC7)PA7, 34 (ADC6)PA6, 35 (ADC5)PA5, 36 (ADC4)PA4, 37 (ADC3)PA3, 38 (ADC2)PA2, 39 (ADC1)PA1, 40 (ADC0)PA0

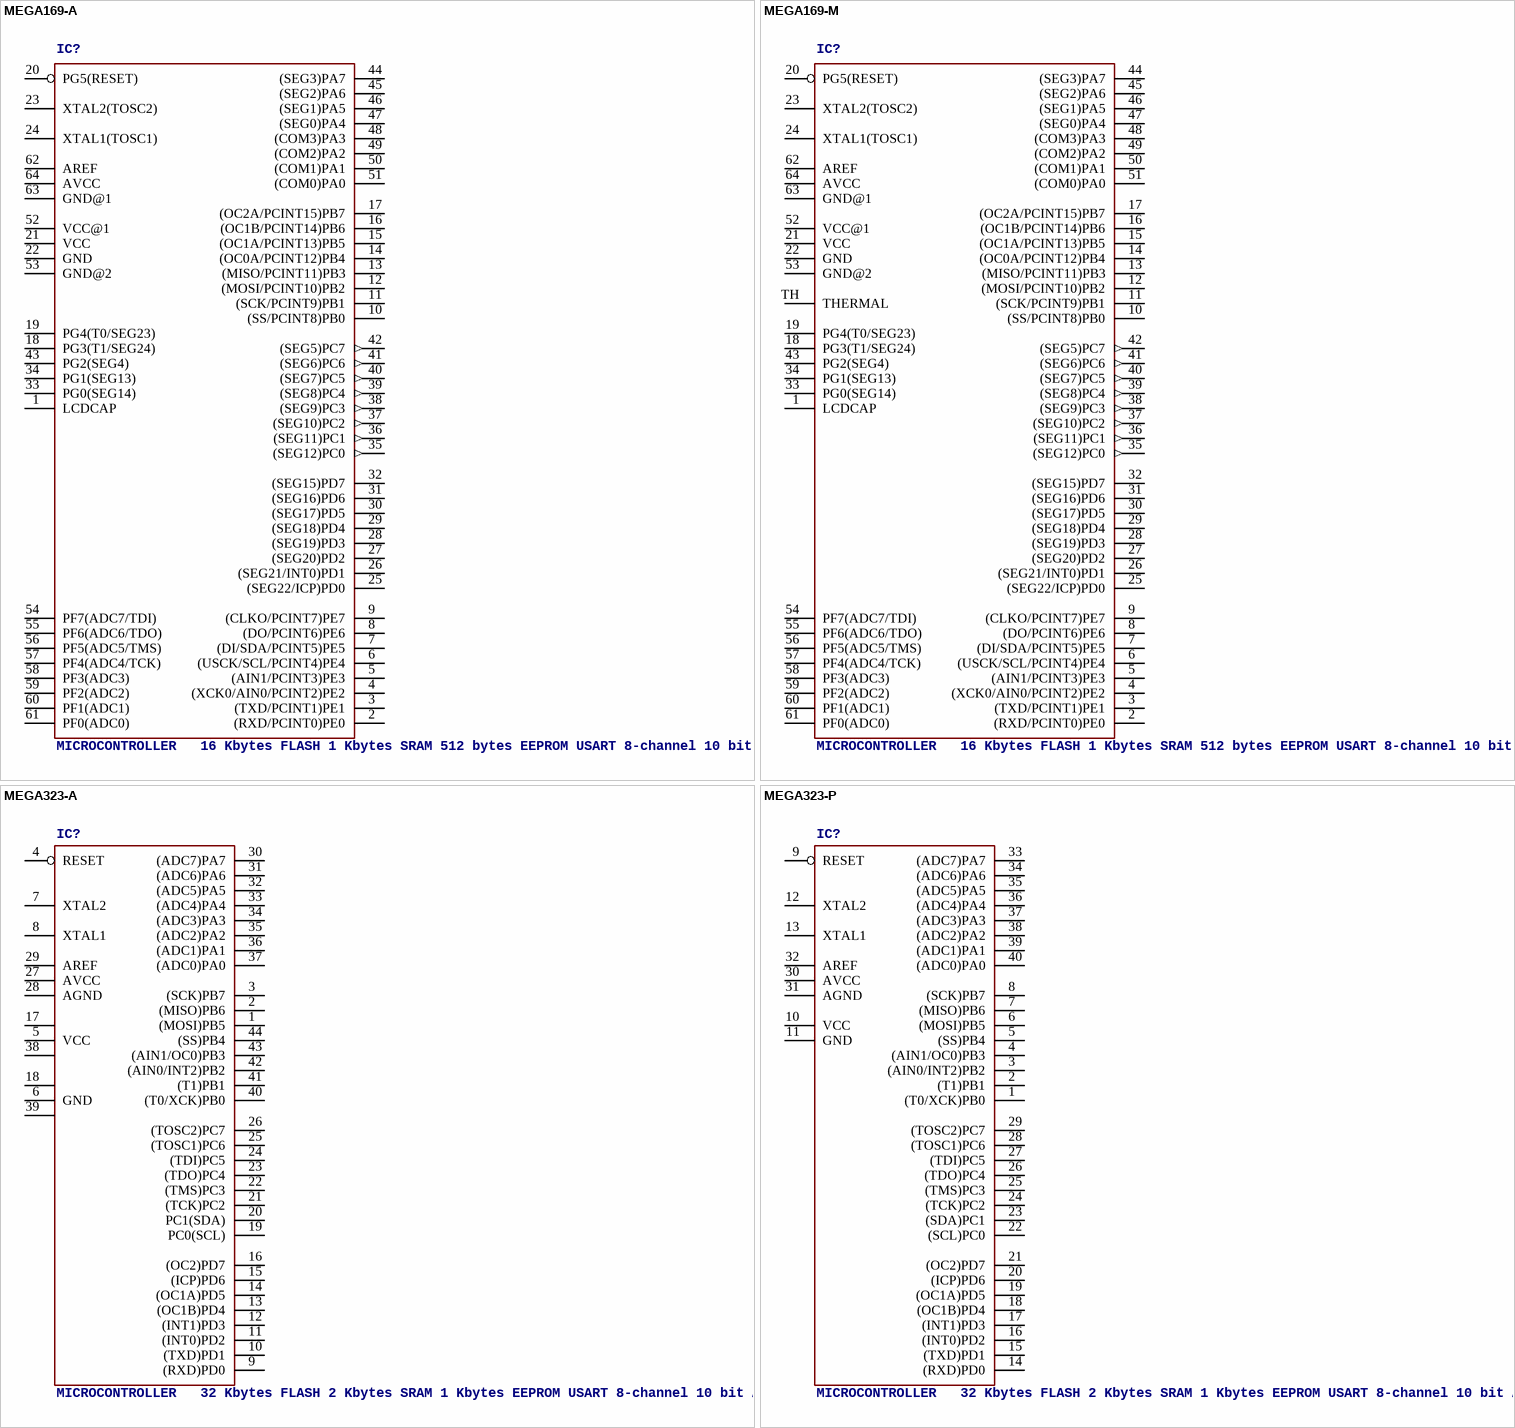
[diagram p23: symbols MEGA169-A to MEGA323-P]

## MEGA169-A
designator IC?, comment MICROCONTROLLER   16 Kbytes FLASH 1 Kbytes SRAM 512 bytes EEPROM USART 8-channel 10 bit ADC 4x25 Segment LCD Driver   Source: avr.lbr
MPN: ATMEGA169PV-8AU; OC_FARNELL: 1617046; OC_NEWARK: 03P4011
footprint TQFP64
pins: 1 LCDCAP, 2 (RXD/PCINT0)PE0, 3 (TXD/PCINT1)PE1, 4 (XCK0/AIN0/PCINT2)PE2, 5 (AIN1/PCINT3)PE3, 6 (USCK/SCL/PCINT4)PE4, 7 (DI/SDA/PCINT5)PE5, 8 (DO/PCINT6)PE6, 9 (CLKO/PCINT7)PE7, 10 (SS/PCINT8)PB0, 11 (SCK/PCINT9)PB1, 12 (MOSI/PCINT10)PB2, 13 (MISO/PCINT11)PB3, 14 (OC0A/PCINT12)PB4, 15 (OC1A/PCINT13)PB5, 16 (OC1B/PCINT14)PB6, 17 (OC2A/PCINT15)PB7, 18 PG3(T1/SEG24), 19 PG4(T0/SEG23), 20 PG5(RESET), 21 VCC (power), 22 GND (power), 23 XTAL2(TOSC2), 24 XTAL1(TOSC1), 25 (SEG22/ICP)PD0, 26 (SEG21/INT0)PD1, 27 (SEG20)PD2, 28 (SEG19)PD3, 29 (SEG18)PD4, 30 (SEG17)PD5, 31 (SEG16)PD6, 32 (SEG15)PD7, 33 PG0(SEG14), 34 PG1(SEG13), 35 (SEG12)PC0 (out), 36 (SEG11)PC1 (out), 37 (SEG10)PC2 (out), 38 (SEG9)PC3 (out), 39 (SEG8)PC4 (out), 40 (SEG7)PC5 (out), 41 (SEG6)PC6 (out), 42 (SEG5)PC7 (out), 43 PG2(SEG4), 44 (SEG3)PA7, 45 (SEG2)PA6, 46 (SEG1)PA5, 47 (SEG0)PA4, 48 (COM3)PA3, 49 (COM2)PA2, 50 (COM1)PA1, 51 (COM0)PA0, 52 VCC@1 (power), 53 GND@2 (power), 54 PF7(ADC7/TDI), 55 PF6(ADC6/TDO), 56 PF5(ADC5/TMS), 57 PF4(ADC4/TCK), 58 PF3(ADC3), 59 PF2(ADC2), 60 PF1(ADC1), 61 PF0(ADC0), 62 AREF, 63 GND@1 (power), 64 AVCC (power)

## MEGA169-M
designator IC?, comment MICROCONTROLLER   16 Kbytes FLASH 1 Kbytes SRAM 512 bytes EEPROM USART 8-channel 10 bit ADC 4x25 Segment LCD Driver   Source: avr.lbr
OC_FARNELL: unknown; OC_NEWARK: unknown
footprint MLF64-TH
pins: 1 LCDCAP, 2 (RXD/PCINT0)PE0, 3 (TXD/PCINT1)PE1, 4 (XCK0/AIN0/PCINT2)PE2, 5 (AIN1/PCINT3)PE3, 6 (USCK/SCL/PCINT4)PE4, 7 (DI/SDA/PCINT5)PE5, 8 (DO/PCINT6)PE6, 9 (CLKO/PCINT7)PE7, 10 (SS/PCINT8)PB0, 11 (SCK/PCINT9)PB1, 12 (MOSI/PCINT10)PB2, 13 (MISO/PCINT11)PB3, 14 (OC0A/PCINT12)PB4, 15 (OC1A/PCINT13)PB5, 16 (OC1B/PCINT14)PB6, 17 (OC2A/PCINT15)PB7, 18 PG3(T1/SEG24), 19 PG4(T0/SEG23), 20 PG5(RESET), 21 VCC (power), 22 GND (power), 23 XTAL2(TOSC2), 24 XTAL1(TOSC1), 25 (SEG22/ICP)PD0, 26 (SEG21/INT0)PD1, 27 (SEG20)PD2, 28 (SEG19)PD3, 29 (SEG18)PD4, 30 (SEG17)PD5, 31 (SEG16)PD6, 32 (SEG15)PD7, 33 PG0(SEG14), 34 PG1(SEG13), 35 (SEG12)PC0 (out), 36 (SEG11)PC1 (out), 37 (SEG10)PC2 (out), 38 (SEG9)PC3 (out), 39 (SEG8)PC4 (out), 40 (SEG7)PC5 (out), 41 (SEG6)PC6 (out), 42 (SEG5)PC7 (out), 43 PG2(SEG4), 44 (SEG3)PA7, 45 (SEG2)PA6, 46 (SEG1)PA5, 47 (SEG0)PA4, 48 (COM3)PA3, 49 (COM2)PA2, 50 (COM1)PA1, 51 (COM0)PA0, 52 VCC@1 (power), 53 GND@2 (power), 54 PF7(ADC7/TDI), 55 PF6(ADC6/TDO), 56 PF5(ADC5/TMS), 57 PF4(ADC4/TCK), 58 PF3(ADC3), 59 PF2(ADC2), 60 PF1(ADC1), 61 PF0(ADC0), 62 AREF, 63 GND@1 (power), 64 AVCC (power), TH THERMAL

## MEGA323-A
designator IC?, comment MICROCONTROLLER   32 Kbytes FLASH 2 Kbytes SRAM 1 Kbytes EEPROM USART 8-channel 10 bit ADC   Source: avr.lbr
OC_FARNELL: unknown; OC_NEWARK: unknown
footprint TQFP44
pins: 1 (MOSI)PB5, 2 (MISO)PB6, 3 (SCK)PB7, 4 RESET, 5 VCC (power), 6 GND (power), 7 XTAL2, 8 XTAL1, 9 (RXD)PD0, 10 (TXD)PD1, 11 (INT0)PD2, 12 (INT1)PD3, 13 (OC1B)PD4, 14 (OC1A)PD5, 15 (ICP)PD6, 16 (OC2)PD7, 17 VCC1 (power), 18 GND1 (power), 19 PC0(SCL), 20 PC1(SDA), 21 (TCK)PC2, 22 (TMS)PC3, 23 (TDO)PC4, 24 (TDI)PC5, 25 (TOSC1)PC6, 26 (TOSC2)PC7, 27 AVCC (power), 28 AGND (power), 29 AREF, 30 (ADC7)PA7, 31 (ADC6)PA6, 32 (ADC5)PA5, 33 (ADC4)PA4, 34 (ADC3)PA3, 35 (ADC2)PA2, 36 (ADC1)PA1, 37 (ADC0)PA0, 38 VCC2 (power), 39 GND2 (power), 40 (T0/XCK)PB0, 41 (T1)PB1, 42 (AIN0/INT2)PB2, 43 (AIN1/OC0)PB3, 44 (SS)PB4

## MEGA323-P
designator IC?, comment MICROCONTROLLER   32 Kbytes FLASH 2 Kbytes SRAM 1 Kbytes EEPROM USART 8-channel 10 bit ADC   Source: avr.lbr
OC_FARNELL: unknown; OC_NEWARK: unknown
footprint DIL40
pins: 1 (T0/XCK)PB0, 2 (T1)PB1, 3 (AIN0/INT2)PB2, 4 (AIN1/OC0)PB3, 5 (SS)PB4, 6 (MOSI)PB5, 7 (MISO)PB6, 8 (SCK)PB7, 9 RESET, 10 VCC (power), 11 GND (power), 12 XTAL2, 13 XTAL1, 14 (RXD)PD0, 15 (TXD)PD1, 16 (INT0)PD2, 17 (INT1)PD3, 18 (OC1B)PD4, 19 (OC1A)PD5, 20 (ICP)PD6, 21 (OC2)PD7, 22 (SCL)PC0, 23 (SDA)PC1, 24 (TCK)PC2, 25 (TMS)PC3, 26 (TDO)PC4, 27 (TDI)PC5, 28 (TOSC1)PC6, 29 (TOSC2)PC7, 30 AVCC (power), 31 AGND (power), 32 AREF, 33 (ADC7)PA7, 34 (ADC6)PA6, 35 (ADC5)PA5, 36 (ADC4)PA4, 37 (ADC3)PA3, 38 (ADC2)PA2, 39 (ADC1)PA1, 40 (ADC0)PA0

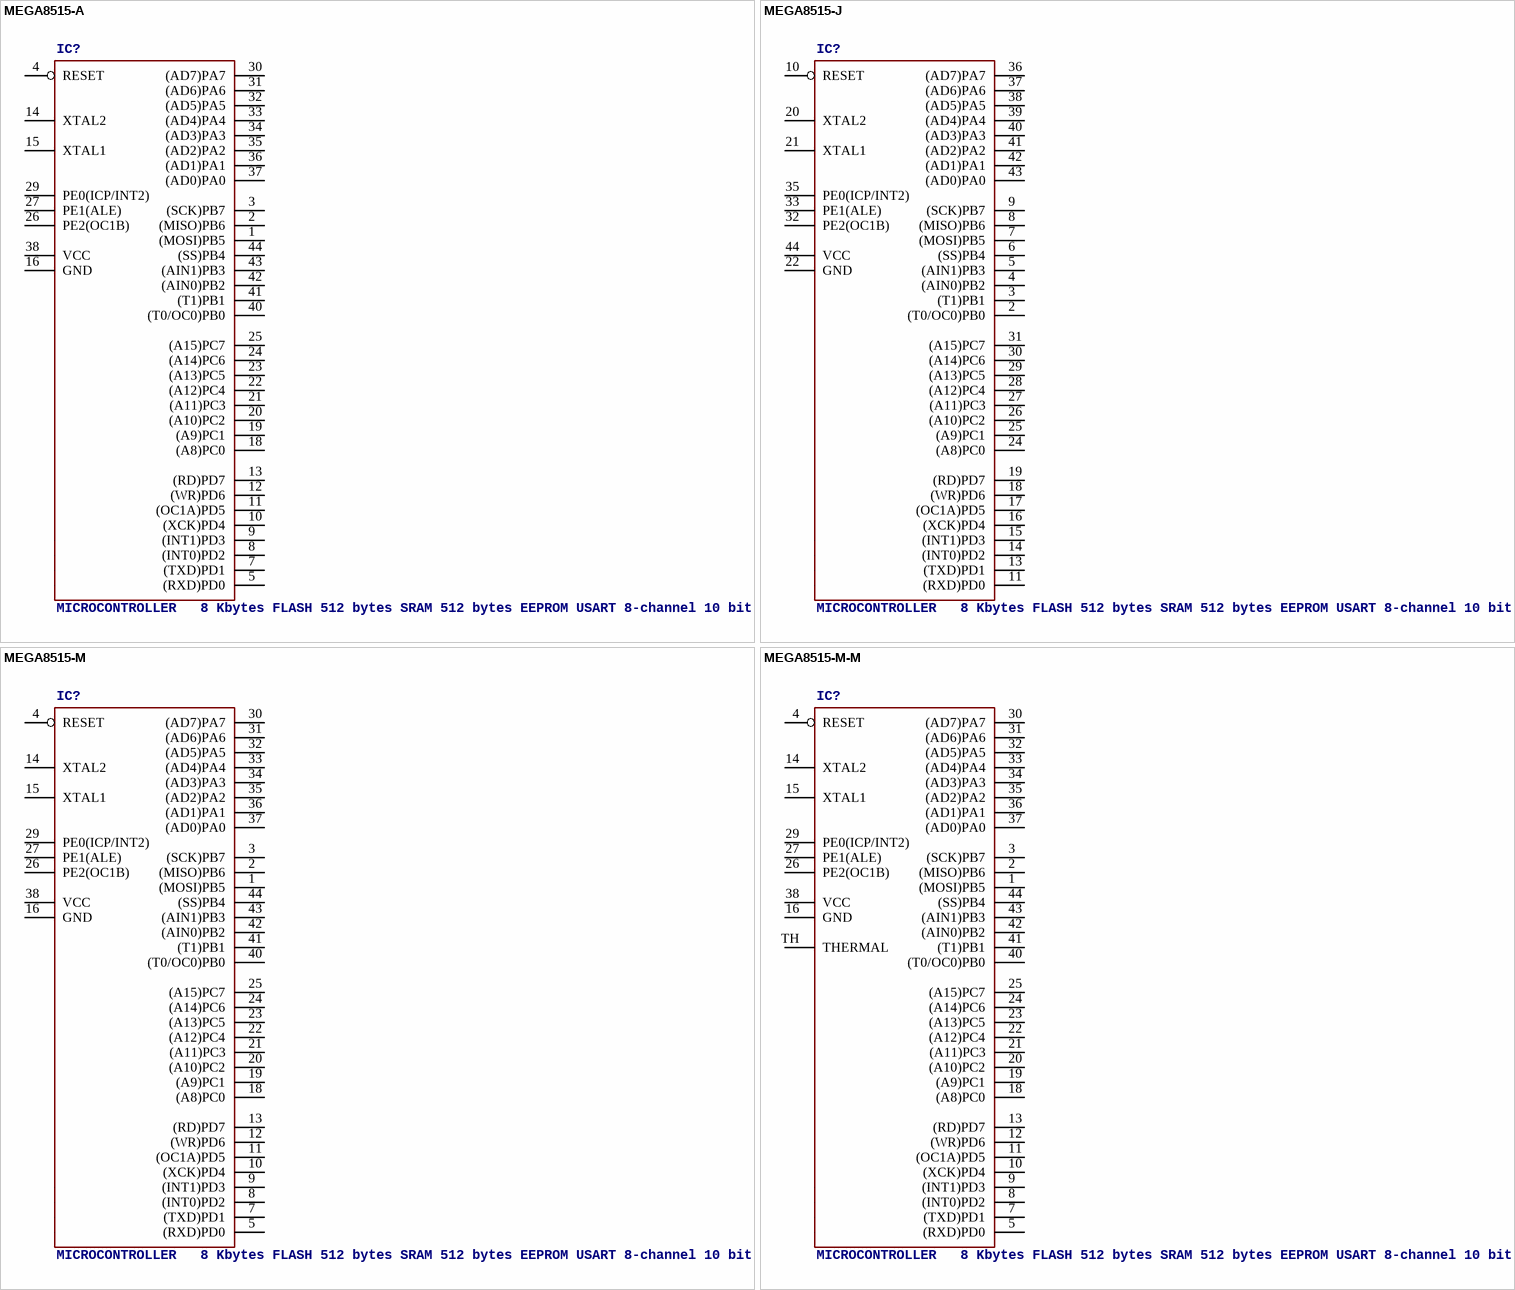
[diagram p24: symbols MEGA8515-A to MEGA8515-M-M]

## MEGA8515-A
designator IC?, comment MICROCONTROLLER   8 Kbytes FLASH 512 bytes SRAM 512 bytes EEPROM USART 8-channel 10 bit ADC   Source: avr.lbr
MPN: ATMEGA8515-16AU; OC_FARNELL: 9171410; OC_NEWARK: 01M6904
footprint TQFP44
pins: 1 (MOSI)PB5, 2 (MISO)PB6, 3 (SCK)PB7, 4 RESET, 5 (RXD)PD0, 6 NC1, 7 (TXD)PD1, 8 (INT0)PD2, 9 (INT1)PD3, 10 (XCK)PD4, 11 (OC1A)PD5, 12 (WR)PD6, 13 (RD)PD7, 14 XTAL2, 15 XTAL1, 16 GND (power), 17 NC2, 18 (A8)PC0, 19 (A9)PC1, 20 (A10)PC2, 21 (A11)PC3, 22 (A12)PC4, 23 (A13)PC5, 24 (A14)PC6, 25 (A15)PC7, 26 PE2(OC1B), 27 PE1(ALE), 28 NC3, 29 PE0(ICP/INT2), 30 (AD7)PA7, 31 (AD6)PA6, 32 (AD5)PA5, 33 (AD4)PA4, 34 (AD3)PA3, 35 (AD2)PA2, 36 (AD1)PA1, 37 (AD0)PA0, 38 VCC (power), 39 NC4, 40 (T0/OC0)PB0, 41 (T1)PB1, 42 (AIN0)PB2, 43 (AIN1)PB3, 44 (SS)PB4

## MEGA8515-J
designator IC?, comment MICROCONTROLLER   8 Kbytes FLASH 512 bytes SRAM 512 bytes EEPROM USART 8-channel 10 bit ADC   Source: avr.lbr
MPN: ATMEGA8515-16JU; OC_FARNELL: 1562625; OC_NEWARK: 94M6261
footprint PLCC44
pins: 1 NC1, 2 (T0/OC0)PB0, 3 (T1)PB1, 4 (AIN0)PB2, 5 (AIN1)PB3, 6 (SS)PB4, 7 (MOSI)PB5, 8 (MISO)PB6, 9 (SCK)PB7, 10 RESET, 11 (RXD)PD0, 12 NC2, 13 (TXD)PD1, 14 (INT0)PD2, 15 (INT1)PD3, 16 (XCK)PD4, 17 (OC1A)PD5, 18 (WR)PD6, 19 (RD)PD7, 20 XTAL2, 21 XTAL1, 22 GND (power), 23 NC3, 24 (A8)PC0, 25 (A9)PC1, 26 (A10)PC2, 27 (A11)PC3, 28 (A12)PC4, 29 (A13)PC5, 30 (A14)PC6, 31 (A15)PC7, 32 PE2(OC1B), 33 PE1(ALE), 34 NC4, 35 PE0(ICP/INT2), 36 (AD7)PA7, 37 (AD6)PA6, 38 (AD5)PA5, 39 (AD4)PA4, 40 (AD3)PA3, 41 (AD2)PA2, 42 (AD1)PA1, 43 (AD0)PA0, 44 VCC (power)

## MEGA8515-M
designator IC?, comment MICROCONTROLLER   8 Kbytes FLASH 512 bytes SRAM 512 bytes EEPROM USART 8-channel 10 bit ADC   Source: avr.lbr
OC_FARNELL: unknown; OC_NEWARK: unknown
footprint MLF44
pins: 1 (MOSI)PB5, 2 (MISO)PB6, 3 (SCK)PB7, 4 RESET, 5 (RXD)PD0, 6 NC1, 7 (TXD)PD1, 8 (INT0)PD2, 9 (INT1)PD3, 10 (XCK)PD4, 11 (OC1A)PD5, 12 (WR)PD6, 13 (RD)PD7, 14 XTAL2, 15 XTAL1, 16 GND (power), 17 NC2, 18 (A8)PC0, 19 (A9)PC1, 20 (A10)PC2, 21 (A11)PC3, 22 (A12)PC4, 23 (A13)PC5, 24 (A14)PC6, 25 (A15)PC7, 26 PE2(OC1B), 27 PE1(ALE), 28 NC3, 29 PE0(ICP/INT2), 30 (AD7)PA7, 31 (AD6)PA6, 32 (AD5)PA5, 33 (AD4)PA4, 34 (AD3)PA3, 35 (AD2)PA2, 36 (AD1)PA1, 37 (AD0)PA0, 38 VCC (power), 39 NC4, 40 (T0/OC0)PB0, 41 (T1)PB1, 42 (AIN0)PB2, 43 (AIN1)PB3, 44 (SS)PB4

## MEGA8515-M-M
designator IC?, comment MICROCONTROLLER   8 Kbytes FLASH 512 bytes SRAM 512 bytes EEPROM USART 8-channel 10 bit ADC   Source: avr.lbr
OC_FARNELL: unknown; OC_NEWARK: unknown
footprint MLF44-TH
pins: 1 (MOSI)PB5, 2 (MISO)PB6, 3 (SCK)PB7, 4 RESET, 5 (RXD)PD0, 6 NC1, 7 (TXD)PD1, 8 (INT0)PD2, 9 (INT1)PD3, 10 (XCK)PD4, 11 (OC1A)PD5, 12 (WR)PD6, 13 (RD)PD7, 14 XTAL2, 15 XTAL1, 16 GND (power), 17 NC2, 18 (A8)PC0, 19 (A9)PC1, 20 (A10)PC2, 21 (A11)PC3, 22 (A12)PC4, 23 (A13)PC5, 24 (A14)PC6, 25 (A15)PC7, 26 PE2(OC1B), 27 PE1(ALE), 28 NC3, 29 PE0(ICP/INT2), 30 (AD7)PA7, 31 (AD6)PA6, 32 (AD5)PA5, 33 (AD4)PA4, 34 (AD3)PA3, 35 (AD2)PA2, 36 (AD1)PA1, 37 (AD0)PA0, 38 VCC (power), 39 NC4, 40 (T0/OC0)PB0, 41 (T1)PB1, 42 (AIN0)PB2, 43 (AIN1)PB3, 44 (SS)PB4, TH THERMAL

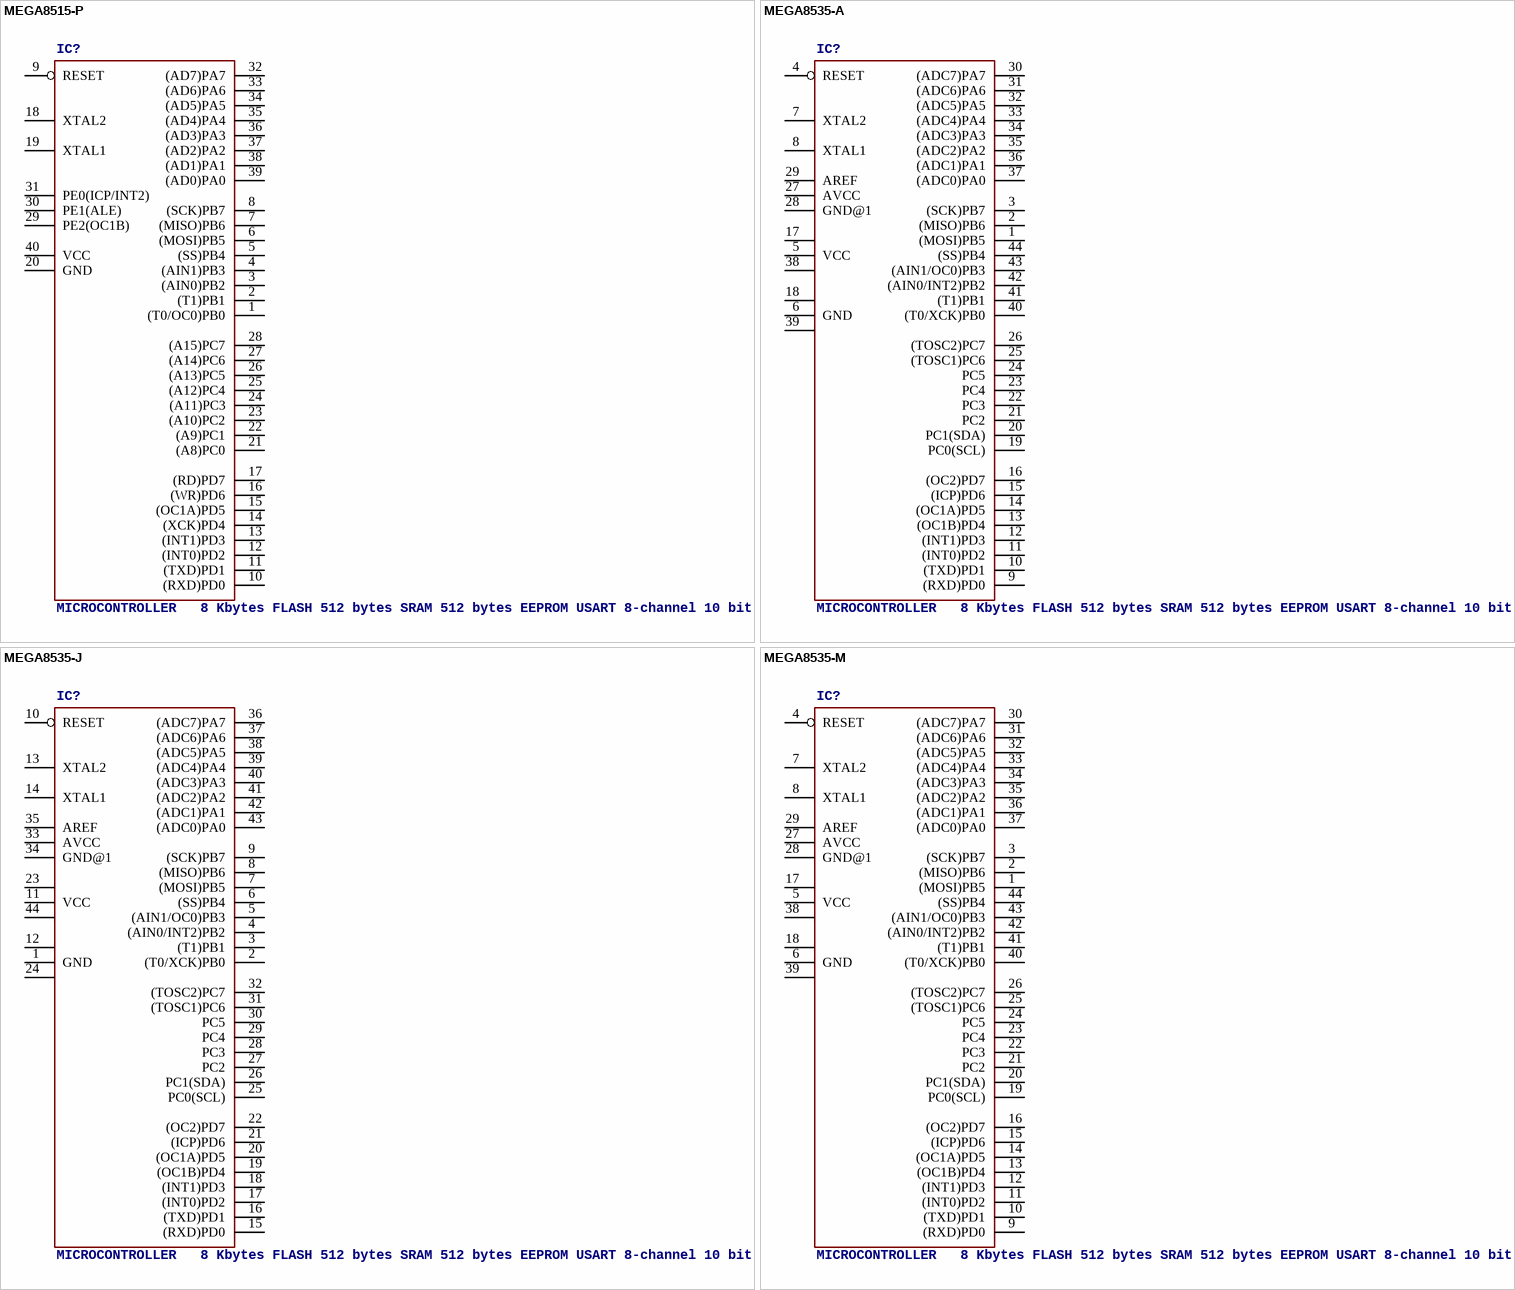
[diagram p25: symbols MEGA8515-P to MEGA8535-M]

## MEGA8515-P
designator IC?, comment MICROCONTROLLER   8 Kbytes FLASH 512 bytes SRAM 512 bytes EEPROM USART 8-channel 10 bit ADC   Source: avr.lbr
MPN: ATMEGA8515-16PU; OC_FARNELL: 9171401; OC_NEWARK: 01M6905
footprint DIL40
pins: 1 (T0/OC0)PB0, 2 (T1)PB1, 3 (AIN0)PB2, 4 (AIN1)PB3, 5 (SS)PB4, 6 (MOSI)PB5, 7 (MISO)PB6, 8 (SCK)PB7, 9 RESET, 10 (RXD)PD0, 11 (TXD)PD1, 12 (INT0)PD2, 13 (INT1)PD3, 14 (XCK)PD4, 15 (OC1A)PD5, 16 (WR)PD6, 17 (RD)PD7, 18 XTAL2, 19 XTAL1, 20 GND (power), 21 (A8)PC0, 22 (A9)PC1, 23 (A10)PC2, 24 (A11)PC3, 25 (A12)PC4, 26 (A13)PC5, 27 (A14)PC6, 28 (A15)PC7, 29 PE2(OC1B), 30 PE1(ALE), 31 PE0(ICP/INT2), 32 (AD7)PA7, 33 (AD6)PA6, 34 (AD5)PA5, 35 (AD4)PA4, 36 (AD3)PA3, 37 (AD2)PA2, 38 (AD1)PA1, 39 (AD0)PA0, 40 VCC (power)

## MEGA8535-A
designator IC?, comment MICROCONTROLLER   8 Kbytes FLASH 512 bytes SRAM 512 bytes EEPROM USART 8-channel 10 bit ADC   Source: avr.lbr
MPN: ATMEGA8535-16AU; OC_FARNELL: 1528437; OC_NEWARK: 01M6908
footprint TQFP44
pins: 1 (MOSI)PB5, 2 (MISO)PB6, 3 (SCK)PB7, 4 RESET, 5 VCC (power), 6 GND (power), 7 XTAL2, 8 XTAL1, 9 (RXD)PD0, 10 (TXD)PD1, 11 (INT0)PD2, 12 (INT1)PD3, 13 (OC1B)PD4, 14 (OC1A)PD5, 15 (ICP)PD6, 16 (OC2)PD7, 17 VCC1 (power), 18 GND1 (power), 19 PC0(SCL), 20 PC1(SDA), 21 PC2, 22 PC3, 23 PC4, 24 PC5, 25 (TOSC1)PC6, 26 (TOSC2)PC7, 27 AVCC (power), 28 GND@1 (power), 29 AREF, 30 (ADC7)PA7, 31 (ADC6)PA6, 32 (ADC5)PA5, 33 (ADC4)PA4, 34 (ADC3)PA3, 35 (ADC2)PA2, 36 (ADC1)PA1, 37 (ADC0)PA0, 38 VCC2 (power), 39 GND2 (power), 40 (T0/XCK)PB0, 41 (T1)PB1, 42 (AIN0/INT2)PB2, 43 (AIN1/OC0)PB3, 44 (SS)PB4

## MEGA8535-J
designator IC?, comment MICROCONTROLLER   8 Kbytes FLASH 512 bytes SRAM 512 bytes EEPROM USART 8-channel 10 bit ADC   Source: avr.lbr
MPN: ATMEGA8535-16JU; OC_FARNELL: 1562626; OC_NEWARK: 94M6263
footprint PLCC44
pins: 1 GND (power), 2 (T0/XCK)PB0, 3 (T1)PB1, 4 (AIN0/INT2)PB2, 5 (AIN1/OC0)PB3, 6 (SS)PB4, 7 (MOSI)PB5, 8 (MISO)PB6, 9 (SCK)PB7, 10 RESET, 11 VCC (power), 12 GND1 (power), 13 XTAL2, 14 XTAL1, 15 (RXD)PD0, 16 (TXD)PD1, 17 (INT0)PD2, 18 (INT1)PD3, 19 (OC1B)PD4, 20 (OC1A)PD5, 21 (ICP)PD6, 22 (OC2)PD7, 23 VCC1 (power), 24 GND2 (power), 25 PC0(SCL), 26 PC1(SDA), 27 PC2, 28 PC3, 29 PC4, 30 PC5, 31 (TOSC1)PC6, 32 (TOSC2)PC7, 33 AVCC (power), 34 GND@1 (power), 35 AREF, 36 (ADC7)PA7, 37 (ADC6)PA6, 38 (ADC5)PA5, 39 (ADC4)PA4, 40 (ADC3)PA3, 41 (ADC2)PA2, 42 (ADC1)PA1, 43 (ADC0)PA0, 44 VCC2 (power)

## MEGA8535-M
designator IC?, comment MICROCONTROLLER   8 Kbytes FLASH 512 bytes SRAM 512 bytes EEPROM USART 8-channel 10 bit ADC   Source: avr.lbr
OC_FARNELL: unknown; OC_NEWARK: unknown
footprint MLF44
pins: 1 (MOSI)PB5, 2 (MISO)PB6, 3 (SCK)PB7, 4 RESET, 5 VCC (power), 6 GND (power), 7 XTAL2, 8 XTAL1, 9 (RXD)PD0, 10 (TXD)PD1, 11 (INT0)PD2, 12 (INT1)PD3, 13 (OC1B)PD4, 14 (OC1A)PD5, 15 (ICP)PD6, 16 (OC2)PD7, 17 VCC1 (power), 18 GND1 (power), 19 PC0(SCL), 20 PC1(SDA), 21 PC2, 22 PC3, 23 PC4, 24 PC5, 25 (TOSC1)PC6, 26 (TOSC2)PC7, 27 AVCC (power), 28 GND@1 (power), 29 AREF, 30 (ADC7)PA7, 31 (ADC6)PA6, 32 (ADC5)PA5, 33 (ADC4)PA4, 34 (ADC3)PA3, 35 (ADC2)PA2, 36 (ADC1)PA1, 37 (ADC0)PA0, 38 VCC2 (power), 39 GND2 (power), 40 (T0/XCK)PB0, 41 (T1)PB1, 42 (AIN0/INT2)PB2, 43 (AIN1/OC0)PB3, 44 (SS)PB4

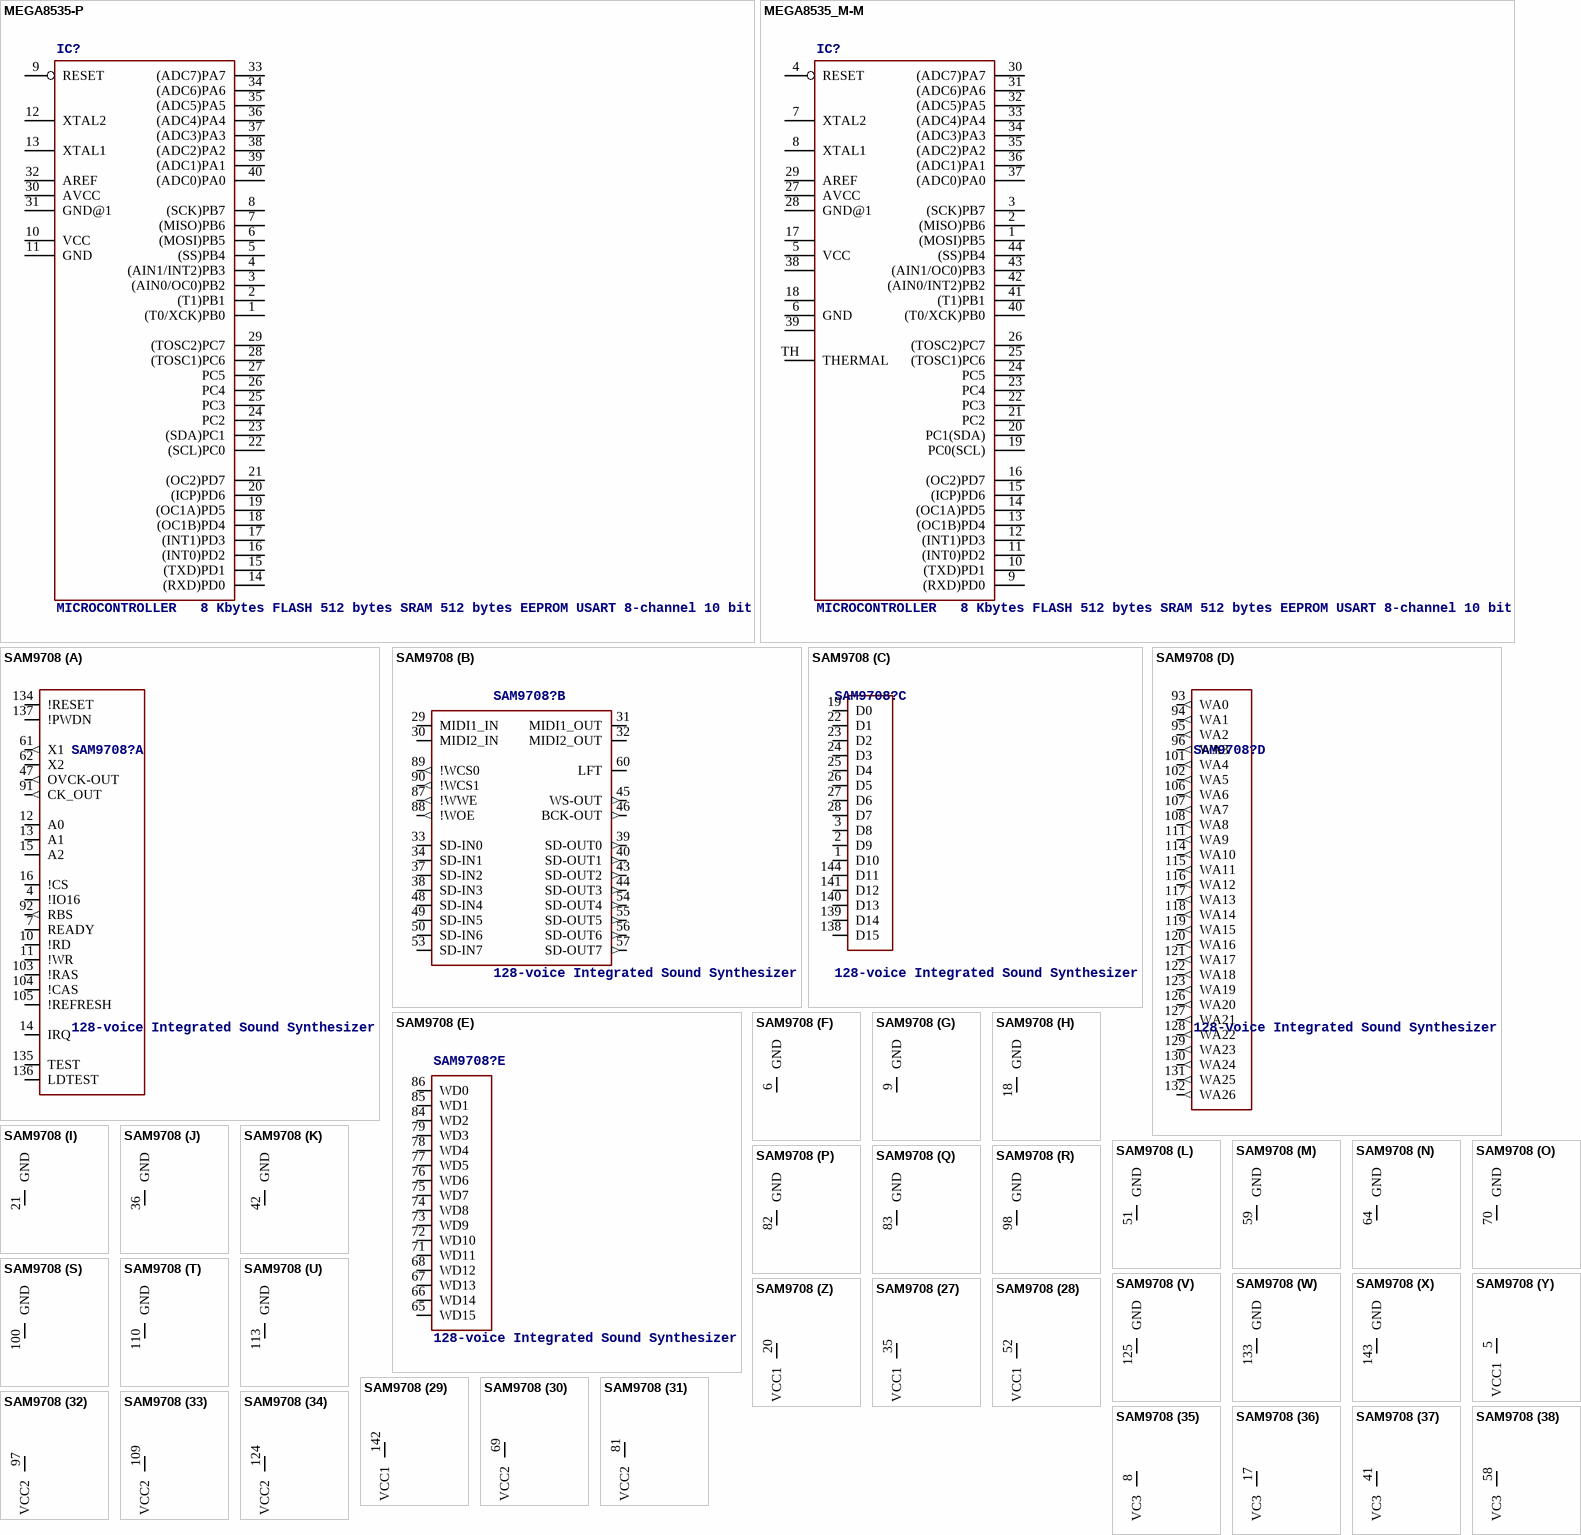
[diagram p26: symbols MEGA8535-P to SAM9708]

## MEGA8535-P
designator IC?, comment MICROCONTROLLER   8 Kbytes FLASH 512 bytes SRAM 512 bytes EEPROM USART 8-channel 10 bit ADC   Source: avr.lbr
MPN: ATMEGA8535-16PU; OC_FARNELL: 9171444; OC_NEWARK: 01M6909
footprint DIL40
pins: 1 (T0/XCK)PB0, 2 (T1)PB1, 3 (AIN0/OC0)PB2, 4 (AIN1/INT2)PB3, 5 (SS)PB4, 6 (MOSI)PB5, 7 (MISO)PB6, 8 (SCK)PB7, 9 RESET, 10 VCC (power), 11 GND (power), 12 XTAL2, 13 XTAL1, 14 (RXD)PD0, 15 (TXD)PD1, 16 (INT0)PD2, 17 (INT1)PD3, 18 (OC1B)PD4, 19 (OC1A)PD5, 20 (ICP)PD6, 21 (OC2)PD7, 22 (SCL)PC0, 23 (SDA)PC1, 24 PC2, 25 PC3, 26 PC4, 27 PC5, 28 (TOSC1)PC6, 29 (TOSC2)PC7, 30 AVCC (power), 31 GND@1 (power), 32 AREF, 33 (ADC7)PA7, 34 (ADC6)PA6, 35 (ADC5)PA5, 36 (ADC4)PA4, 37 (ADC3)PA3, 38 (ADC2)PA2, 39 (ADC1)PA1, 40 (ADC0)PA0

## MEGA8535_M-M
designator IC?, comment MICROCONTROLLER   8 Kbytes FLASH 512 bytes SRAM 512 bytes EEPROM USART 8-channel 10 bit ADC   Source: avr.lbr
OC_FARNELL: unknown; OC_NEWARK: unknown
footprint MLF44-TH
pins: 1 (MOSI)PB5, 2 (MISO)PB6, 3 (SCK)PB7, 4 RESET, 5 VCC (power), 6 GND (power), 7 XTAL2, 8 XTAL1, 9 (RXD)PD0, 10 (TXD)PD1, 11 (INT0)PD2, 12 (INT1)PD3, 13 (OC1B)PD4, 14 (OC1A)PD5, 15 (ICP)PD6, 16 (OC2)PD7, 17 VCC1 (power), 18 GND1 (power), 19 PC0(SCL), 20 PC1(SDA), 21 PC2, 22 PC3, 23 PC4, 24 PC5, 25 (TOSC1)PC6, 26 (TOSC2)PC7, 27 AVCC (power), 28 GND@1 (power), 29 AREF, 30 (ADC7)PA7, 31 (ADC6)PA6, 32 (ADC5)PA5, 33 (ADC4)PA4, 34 (ADC3)PA3, 35 (ADC2)PA2, 36 (ADC1)PA1, 37 (ADC0)PA0, 38 VCC2 (power), 39 GND2 (power), 40 (T0/XCK)PB0, 41 (T1)PB1, 42 (AIN0/INT2)PB2, 43 (AIN1/OC0)PB3, 44 (SS)PB4, TH THERMAL

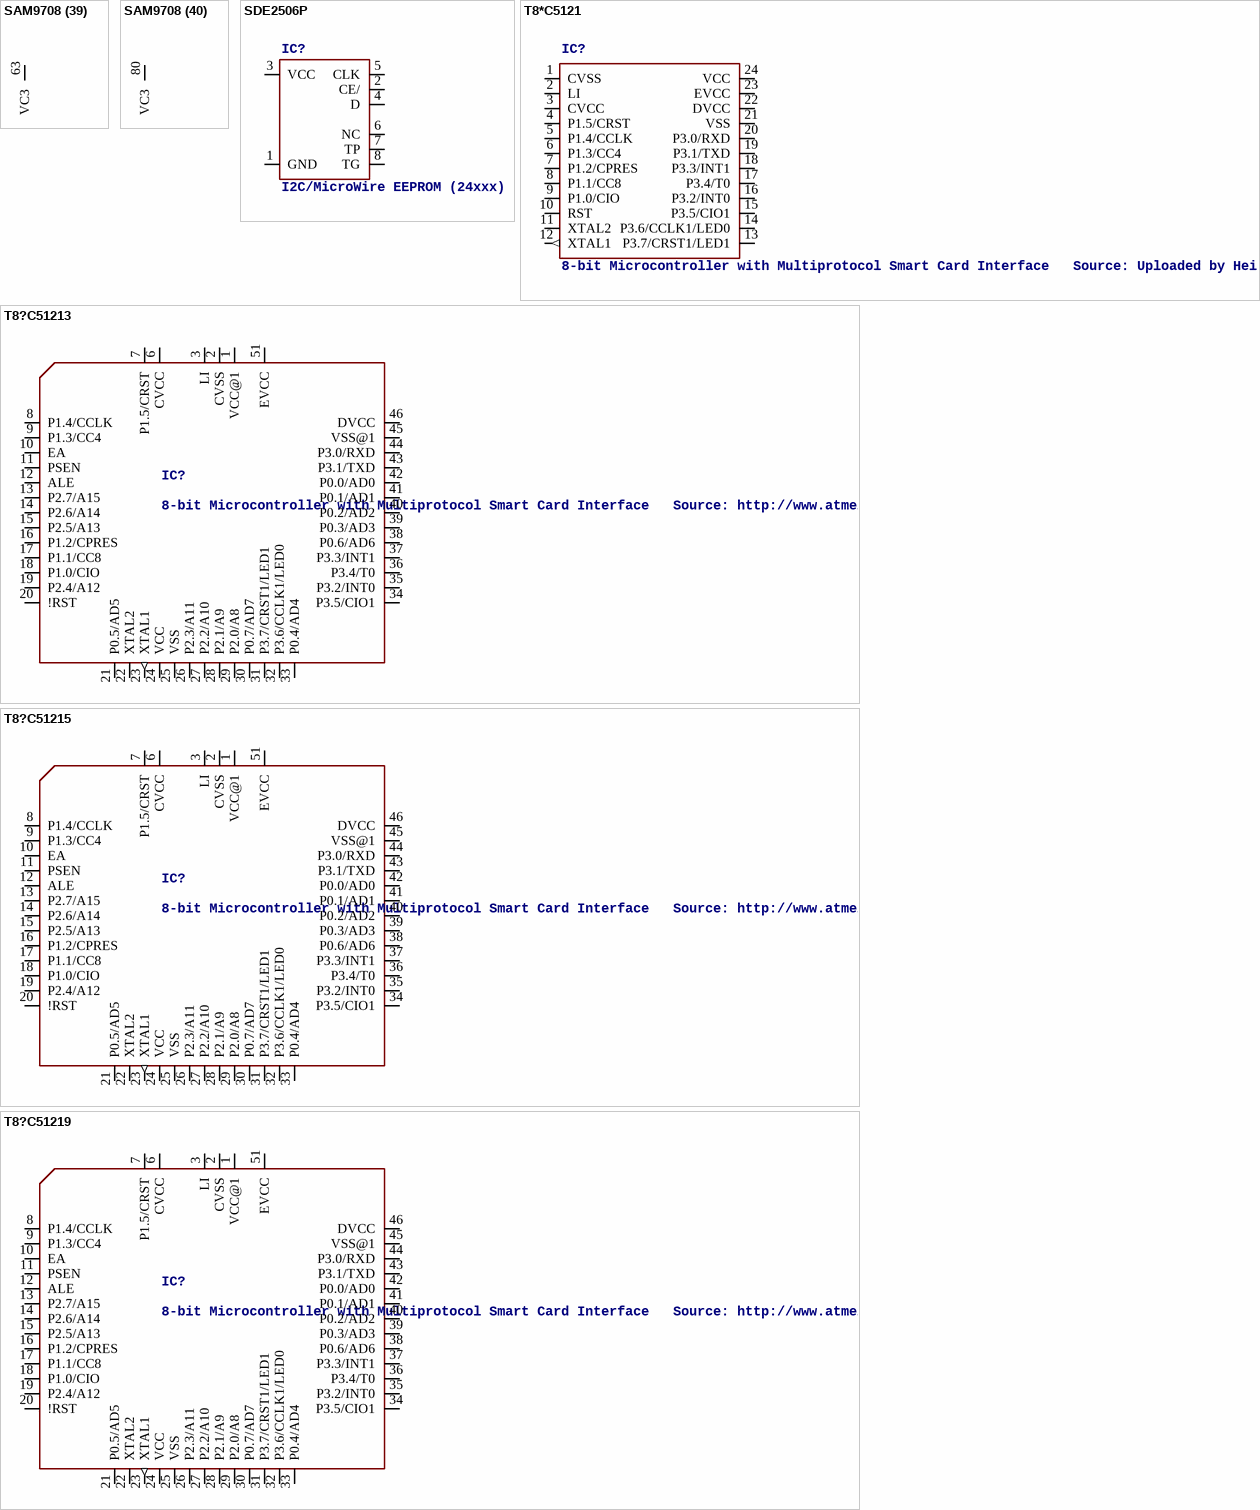
[diagram p27: symbols SAM9708 to T8?C51219]

## SAM9708
designator SAM9708?, comment 128-voice Integrated Sound Synthesizer
OC_FARNELL: unknown; OC_NEWARK: unknown
footprint TQFP144
part A pins: 4 !IO16 (hiz), 7 READY (hiz), 10 !RD, 11 !WR, 12 A0, 13 A1, 14 IRQ (hiz), 15 A2, 16 !CS, 47 OVCK-OUT (out), 61 X1 (out), 62 X2, 91 CK_OUT (out), 92 RBS (out), 103 !RAS, 104 !CAS, 105 !REFRESH, 134 !RESET, 135 TEST, 136 LDTEST, 137 !PWDN
part B pins: 29 MIDI1_IN, 30 MIDI2_IN, 31 MIDI1_OUT, 32 MIDI2_OUT, 33 SD-IN0, 34 SD-IN1, 37 SD-IN2, 38 SD-IN3, 39 SD-OUT0 (out), 40 SD-OUT1 (out), 43 SD-OUT2 (out), 44 SD-OUT3 (out), 45 WS-OUT (out), 46 BCK-OUT (out), 48 SD-IN4, 49 SD-IN5, 50 SD-IN6, 53 SD-IN7, 54 SD-OUT4 (out), 55 SD-OUT5 (out), 56 SD-OUT6 (out), 57 SD-OUT7 (out), 60 LFT, 87 !WWE (out), 88 !WOE (out), 89 !WCS0 (out), 90 !WCS1 (out)
part C pins: 1 D10 (hiz), 2 D9 (hiz), 3 D8 (hiz), 19 D0 (hiz), 22 D1 (hiz), 23 D2 (hiz), 24 D3 (hiz), 25 D4 (hiz), 26 D5 (hiz), 27 D6 (hiz), 28 D7 (hiz), 138 D15 (hiz), 139 D14 (hiz), 140 D13 (hiz), 141 D12 (hiz), 144 D11 (hiz)
part D pins: 93 WA0 (out), 94 WA1 (out), 95 WA2 (out), 96 WA3 (out), 101 WA4 (out), 102 WA5 (out), 106 WA6 (out), 107 WA7 (out), 108 WA8 (out), 111 WA9 (out), 114 WA10 (out), 115 WA11 (out), 116 WA12 (out), 117 WA13 (out), 118 WA14 (out), 119 WA15 (out), 120 WA16 (out), 121 WA17 (out), 122 WA18 (out), 123 WA19 (out), 126 WA20 (out), 127 WA21 (out), 128 WA22 (out), 129 WA23 (out), 130 WA24 (out), 131 WA25 (out), 132 WA26 (out)
part E pins: 65 WD15, 66 WD14, 67 WD13, 68 WD12, 71 WD11, 72 WD10, 73 WD9, 74 WD8, 75 WD7, 76 WD6, 77 WD5, 78 WD4, 79 WD3, 84 WD2, 85 WD1, 86 WD0
part F pins: 6 GND (power)
part G pins: 9 GND (power)
part H pins: 18 GND (power)
part I pins: 21 GND (power)
part J pins: 36 GND (power)
part K pins: 42 GND (power)
part L pins: 51 GND (power)
part M pins: 59 GND (power)
part N pins: 64 GND (power)
part O pins: 70 GND (power)
part P pins: 82 GND (power)
part Q pins: 83 GND (power)
part R pins: 98 GND (power)
part S pins: 100 GND (power)
part T pins: 110 GND (power)
part U pins: 113 GND (power)
part V pins: 125 GND (power)
part W pins: 133 GND (power)
part X pins: 143 GND (power)
part Y pins: 5 VCC1 (power)
part Z pins: 20 VCC1 (power)
part 27 pins: 35 VCC1 (power)
part 28 pins: 52 VCC1 (power)
part 29 pins: 142 VCC1 (power)
part 30 pins: 69 VCC2 (power)
part 31 pins: 81 VCC2 (power)
part 32 pins: 97 VCC2 (power)
part 33 pins: 109 VCC2 (power)
part 34 pins: 124 VCC2 (power)
part 35 pins: 8 VC3 (power)
part 36 pins: 17 VC3 (power)
part 37 pins: 41 VC3 (power)
part 38 pins: 58 VC3 (power)
part 39 pins: 63 VC3 (power)
part 40 pins: 80 VC3 (power)
part 41 pins: 99 VC3 (power)
part 42 pins: 112 VC3 (power)

## SDE2506P
designator IC?, comment I2C/MicroWire EEPROM (24xxx)
OC_FARNELL: unknown; OC_NEWARK: unknown
footprint DIL08
pins: 1 GND (power), 2 CE/, 3 VCC (power), 4 D, 5 CLK, 6 NC, 7 TP, 8 TG

## T8*C5121
designator IC?, comment 8-bit Microcontroller with Multiprotocol Smart Card Interface   Source: Uploaded by Heiko Künzel  from ATG Automatisierungstechnik Gera Mon Mar 10 13:32:48 2003 Atmel-Library mit zusätzlich T83C5121-Prozessor im SSOP24-Package.
OC_FARNELL: unknown; OC_NEWARK: unknown
footprint SSOP24
pins: 1 CVSS (power), 2 LI (power), 3 CVCC (power), 4 P1.5/CRST, 5 P1.4/CCLK, 6 P1.3/CC4, 7 P1.2/CPRES, 8 P1.1/CC8, 9 P1.0/CIO, 10 RST, 11 XTAL2, 12 XTAL1 (out), 13 P3.7/CRST1/LED1, 14 P3.6/CCLK1/LED0, 15 P3.5/CIO1, 16 P3.2/INT0, 17 P3.4/T0, 18 P3.3/INT1, 19 P3.1/TXD, 20 P3.0/RXD, 21 VSS (power), 22 DVCC (power), 23 EVCC, 24 VCC (power)

## T8?C51213
designator IC?, comment 8-bit Microcontroller with Multiprotocol Smart Card Interface   Source: http://www.atmel.com/...doc4164.pdf
OC_FARNELL: unknown; OC_NEWARK: unknown
footprint PLCC52
pins: 1 VCC@1 (power), 2 CVSS (power), 3 LI (power), 6 CVCC (power), 7 P1.5/CRST, 8 P1.4/CCLK, 9 P1.3/CC4, 10 EA, 11 PSEN, 12 ALE, 13 P2.7/A15, 14 P2.6/A14, 15 P2.5/A13, 16 P1.2/CPRES, 17 P1.1/CC8, 18 P1.0/CIO, 19 P2.4/A12, 20 !RST, 21 P0.5/AD5, 22 XTAL2, 23 XTAL1 (out), 24 VCC (power), 25 VSS (power), 26 P2.3/A11, 27 P2.2/A10, 28 P2.1/A9, 29 P2.0/A8, 30 P0.7/AD7, 31 P3.7/CRST1/LED1, 32 P3.6/CCLK1/LED0, 33 P0.4/AD4, 34 P3.5/CIO1, 35 P3.2/INT0, 36 P3.4/T0, 37 P3.3/INT1, 38 P0.6/AD6, 39 P0.3/AD3, 40 P0.2/AD2, 41 P0.1/AD1, 42 P0.0/AD0, 43 P3.1/TXD, 44 P3.0/RXD, 45 VSS@1 (power), 46 DVCC (power), 51 EVCC

## T8?C51215
designator IC?, comment 8-bit Microcontroller with Multiprotocol Smart Card Interface   Source: http://www.atmel.com/...doc4164.pdf
OC_FARNELL: unknown; OC_NEWARK: unknown
footprint PLCC52
pins: 1 VCC@1 (power), 2 CVSS (power), 3 LI (power), 6 CVCC (power), 7 P1.5/CRST, 8 P1.4/CCLK, 9 P1.3/CC4, 10 EA, 11 PSEN, 12 ALE, 13 P2.7/A15, 14 P2.6/A14, 15 P2.5/A13, 16 P1.2/CPRES, 17 P1.1/CC8, 18 P1.0/CIO, 19 P2.4/A12, 20 !RST, 21 P0.5/AD5, 22 XTAL2, 23 XTAL1 (out), 24 VCC (power), 25 VSS (power), 26 P2.3/A11, 27 P2.2/A10, 28 P2.1/A9, 29 P2.0/A8, 30 P0.7/AD7, 31 P3.7/CRST1/LED1, 32 P3.6/CCLK1/LED0, 33 P0.4/AD4, 34 P3.5/CIO1, 35 P3.2/INT0, 36 P3.4/T0, 37 P3.3/INT1, 38 P0.6/AD6, 39 P0.3/AD3, 40 P0.2/AD2, 41 P0.1/AD1, 42 P0.0/AD0, 43 P3.1/TXD, 44 P3.0/RXD, 45 VSS@1 (power), 46 DVCC (power), 51 EVCC

## T8?C51219
designator IC?, comment 8-bit Microcontroller with Multiprotocol Smart Card Interface   Source: http://www.atmel.com/...doc4164.pdf
OC_FARNELL: unknown; OC_NEWARK: unknown
footprint PLCC52
pins: 1 VCC@1 (power), 2 CVSS (power), 3 LI (power), 6 CVCC (power), 7 P1.5/CRST, 8 P1.4/CCLK, 9 P1.3/CC4, 10 EA, 11 PSEN, 12 ALE, 13 P2.7/A15, 14 P2.6/A14, 15 P2.5/A13, 16 P1.2/CPRES, 17 P1.1/CC8, 18 P1.0/CIO, 19 P2.4/A12, 20 !RST, 21 P0.5/AD5, 22 XTAL2, 23 XTAL1 (out), 24 VCC (power), 25 VSS (power), 26 P2.3/A11, 27 P2.2/A10, 28 P2.1/A9, 29 P2.0/A8, 30 P0.7/AD7, 31 P3.7/CRST1/LED1, 32 P3.6/CCLK1/LED0, 33 P0.4/AD4, 34 P3.5/CIO1, 35 P3.2/INT0, 36 P3.4/T0, 37 P3.3/INT1, 38 P0.6/AD6, 39 P0.3/AD3, 40 P0.2/AD2, 41 P0.1/AD1, 42 P0.0/AD0, 43 P3.1/TXD, 44 P3.0/RXD, 45 VSS@1 (power), 46 DVCC (power), 51 EVCC

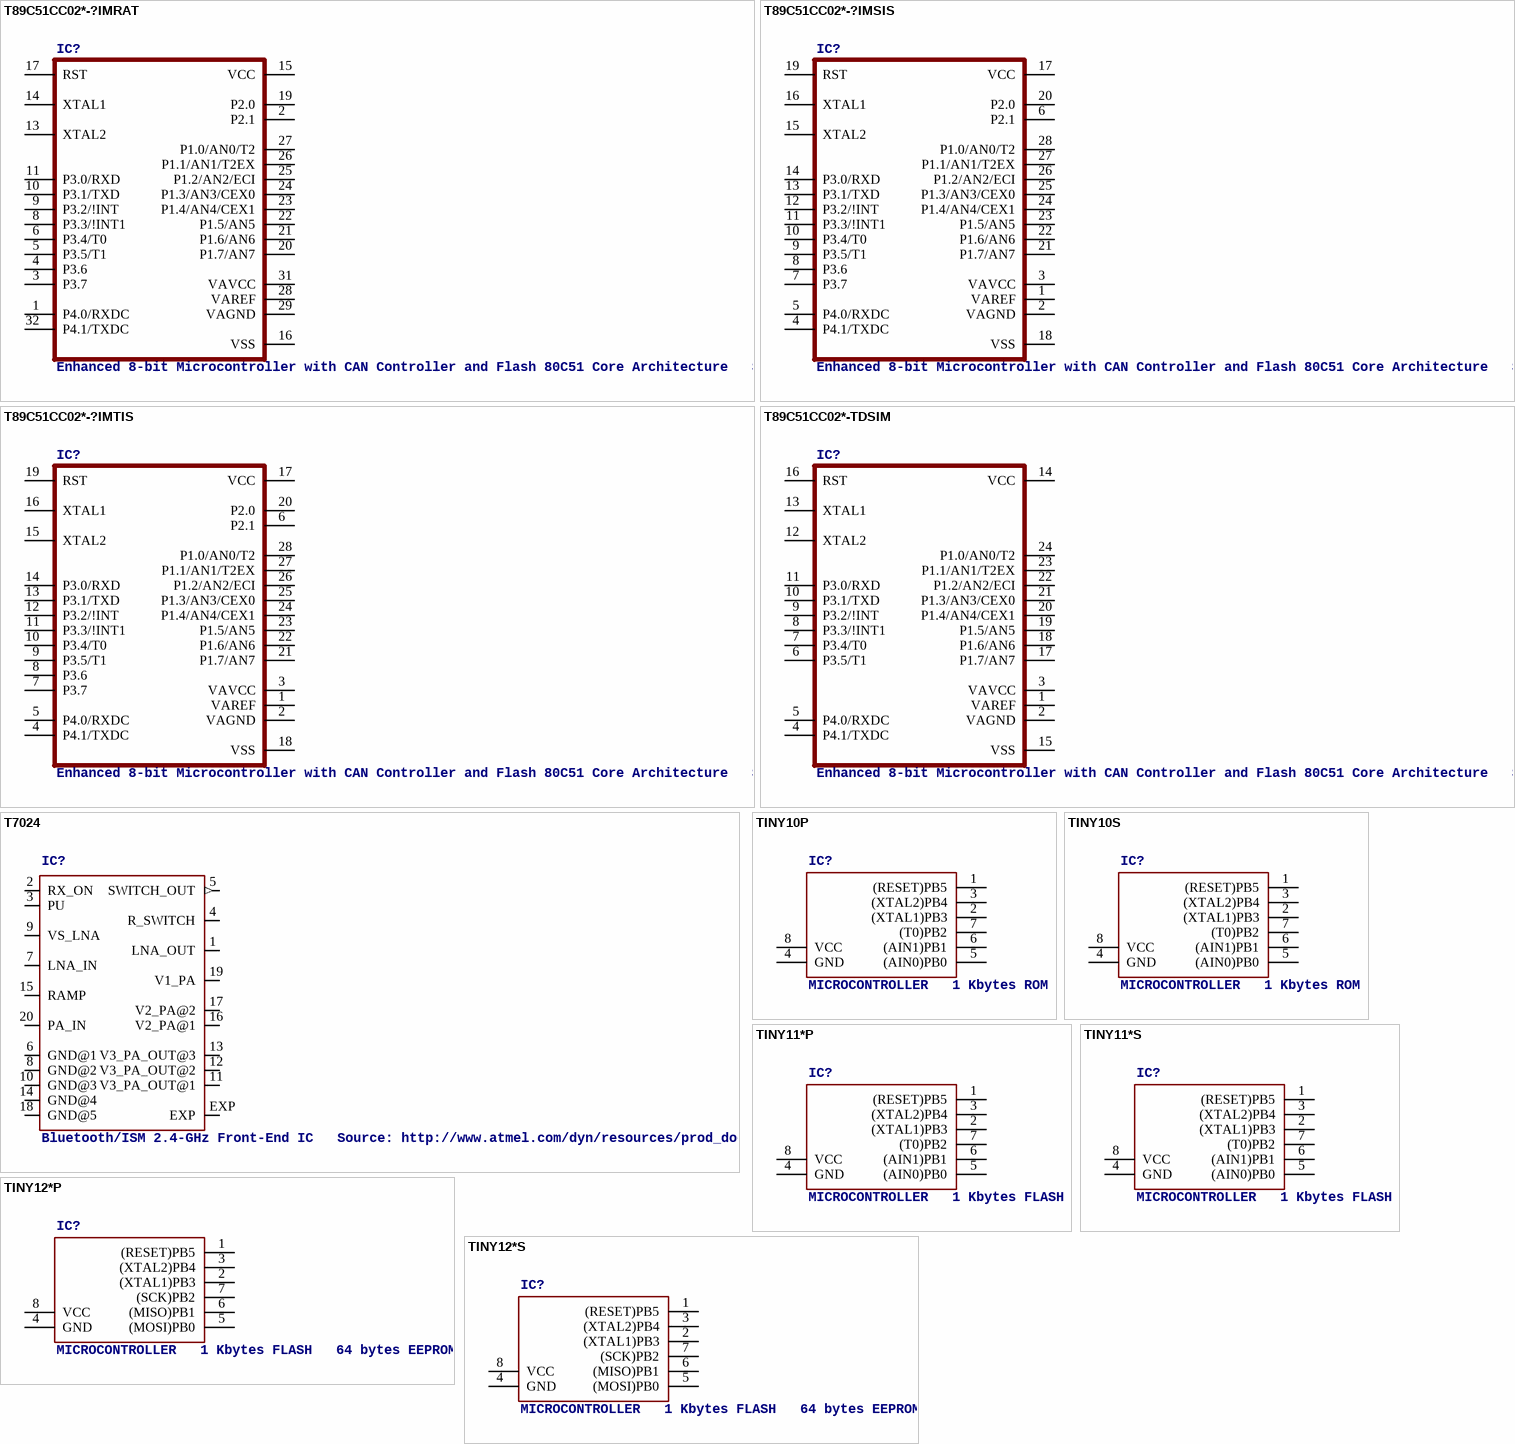
[diagram p28: symbols T89C51CC02*-?IMRAT to TINY12*S]